# Altium schematic symbol library MCU_ST_STM32F4.SchLib: 300 symbols (part 2 of 11)
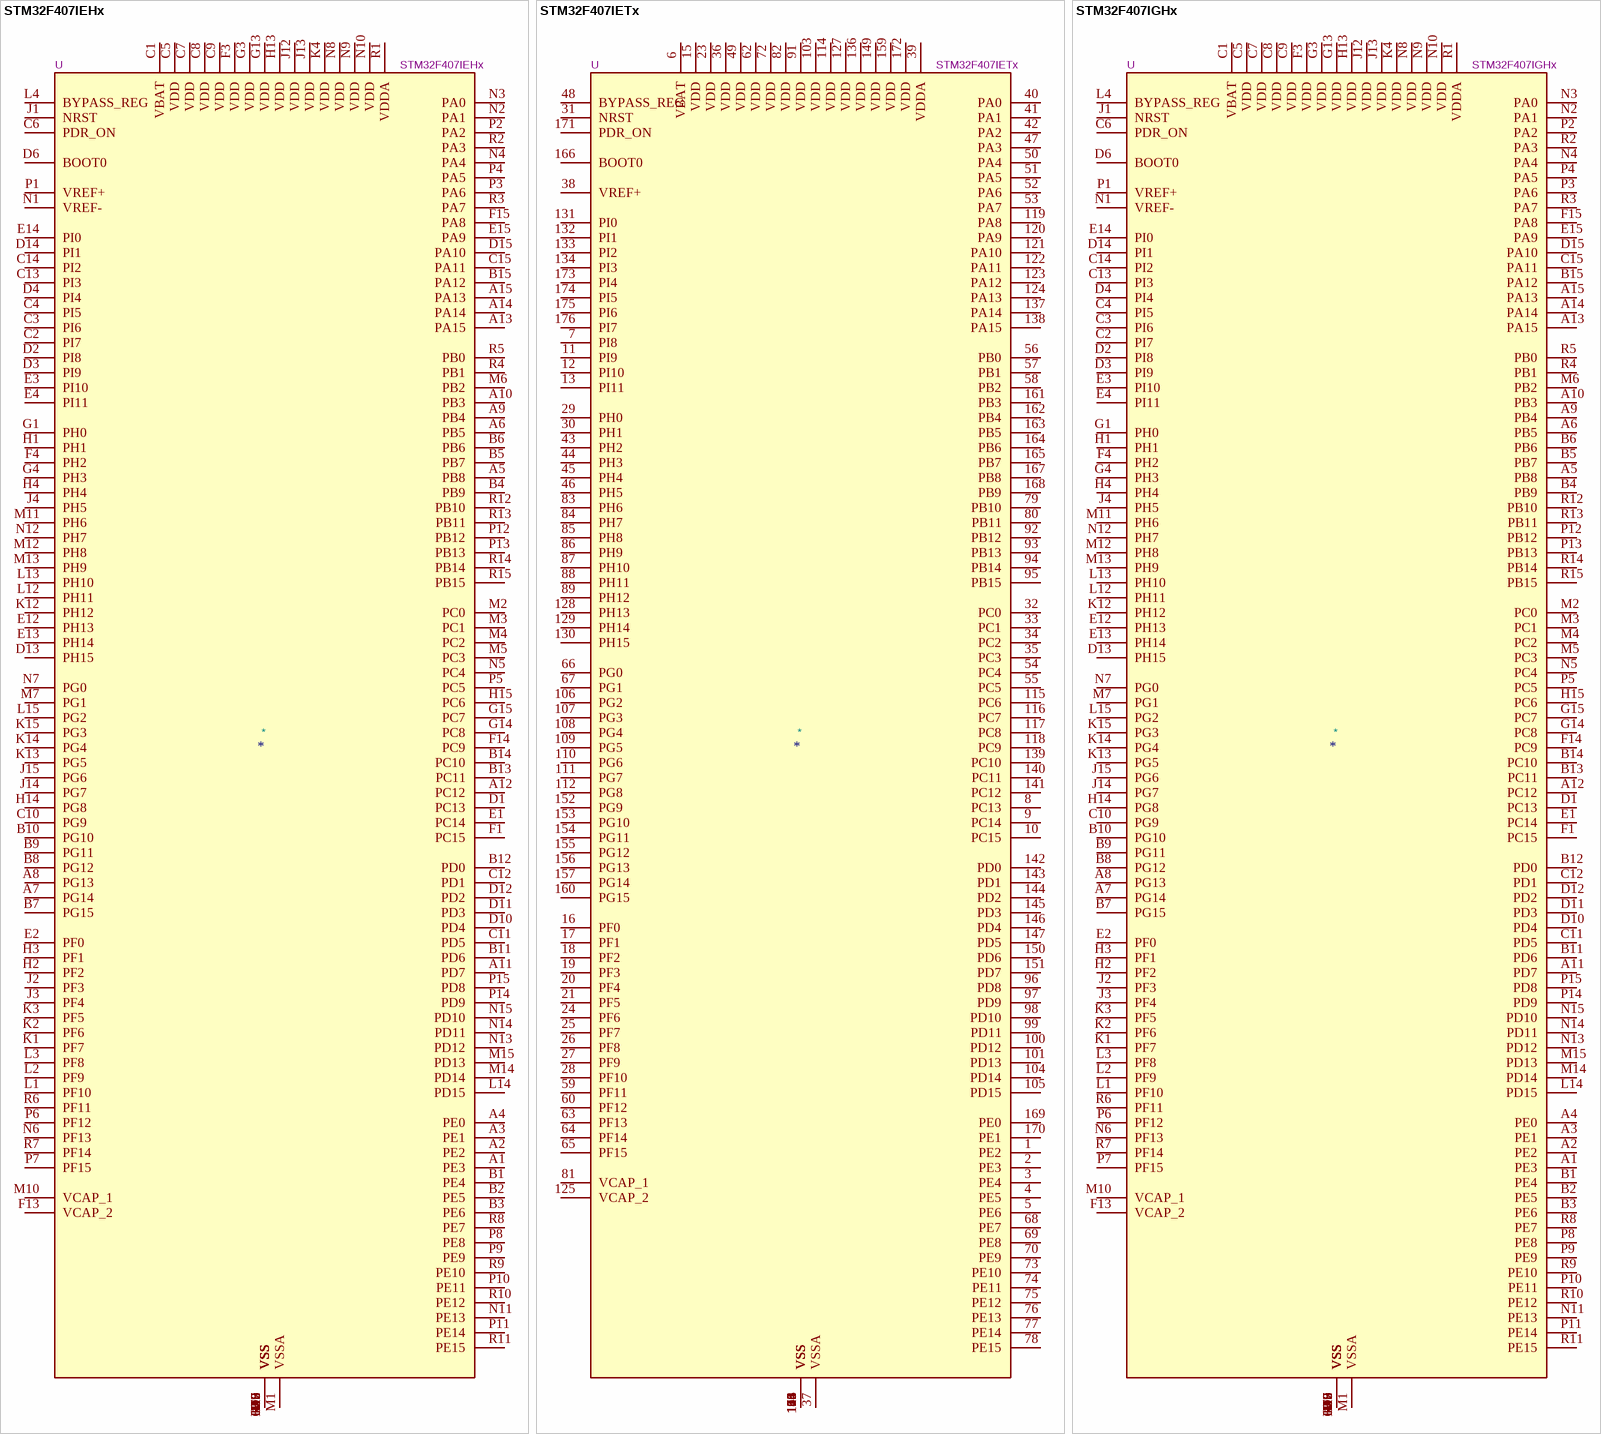
[diagram p83: symbols STM32F407IEHx to STM32F407IGHx]

## STM32F407IETx
designator *  value STM32F407IETx  Reference: U
STMicroelectronics Arm Cortex-M4 MCU, 512KB flash, 192KB RAM, 168 MHz, 1.8-3.6V, 140 GPIO, LQFP176; ki_keywords: Arm Cortex-M4 STM32F4 STM32F407/417; ki_fp_filters: LQFP*24x24mm*P0.5mm*; Footprint: Package_QFP:LQFP-176_24x24mm_P0.5mm; Datasheet: https://www.st.com/resource/en/datasheet/stm32f407ie.pdf; Description_: STMicroelectronics Arm Cortex-M4 MCU, 512KB flash, 192KB RAM, 168 MHz, 1.8-3.6V, 140 GPIO, LQFP176
pins: 1 PE2, 2 PE3, 3 PE4, 4 PE5, 5 PE6, 6 VBAT, 7 PI8, 8 PC13, 9 PC14, 10 PC15, 11 PI9, 12 PI10, 13 PI11, 14 VSS, 15 VDD, 16 PF0, 17 PF1, 18 PF2, 19 PF3, 20 PF4, 21 PF5, 22 VSS, 23 VDD, 24 PF6, 25 PF7, 26 PF8, 27 PF9, 28 PF10, 29 PH0, 30 PH1, 31 NRST, 32 PC0, 33 PC1, 34 PC2, 35 PC3, 36 VDD, 37 VSSA, 38 VREF+, 39 VDDA, 40 PA0, 41 PA1, 42 PA2, 43 PH2, 44 PH3, 45 PH4, 46 PH5, 47 PA3, 48 BYPASS_REG, 49 VDD, 50 PA4, 51 PA5, 52 PA6, 53 PA7, 54 PC4, 55 PC5, 56 PB0, 57 PB1, 58 PB2, 59 PF11, 60 PF12, 61 VSS, 62 VDD, 63 PF13, 64 PF14, 65 PF15, 66 PG0, 67 PG1, 68 PE7, 69 PE8, 70 PE9, 71 VSS, 72 VDD, 73 PE10, 74 PE11, 75 PE12, 76 PE13, 77 PE14, 78 PE15, 79 PB10, 80 PB11, 81 VCAP_1, 82 VDD, 83 PH6, 84 PH7, 85 PH8, 86 PH9, 87 PH10, 88 PH11, 89 PH12, 90 VSS, 91 VDD, 92 PB12, 93 PB13, 94 PB14, 95 PB15, 96 PD8, 97 PD9, 98 PD10, 99 PD11, 100 PD12, 101 PD13, 102 VSS, 103 VDD, 104 PD14, 105 PD15, 106 PG2, 107 PG3, 108 PG4, 109 PG5, 110 PG6, 111 PG7, 112 PG8, 113 VSS, 114 VDD, 115 PC6, 116 PC7, 117 PC8, 118 PC9, 119 PA8, 120 PA9, 121 PA10, 122 PA11, 123 PA12, 124 PA13, 125 VCAP_2, 126 VSS, 127 VDD, 128 PH13, 129 PH14, 130 PH15, 131 PI0, 132 PI1, 133 PI2, 134 PI3, 135 VSS, 136 VDD, 137 PA14, 138 PA15, 139 PC10, 140 PC11, 141 PC12, 142 PD0, 143 PD1, 144 PD2, 145 PD3, 146 PD4, 147 PD5, 148 VSS, 149 VDD, 150 PD6, 151 PD7, 152 PG9, 153 PG10, 154 PG11, 155 PG12, 156 PG13, 157 PG14, 158 VSS, 159 VDD, 160 PG15, 161 PB3, 162 PB4, 163 PB5, 164 PB6, 165 PB7, 166 BOOT0, 167 PB8, 168 PB9, 169 PE0, 170 PE1, 171 PDR_ON, 172 VDD, 173 PI4, 174 PI5, 175 PI6, 176 PI7

## STM32F407IGHx
designator *  value STM32F407IGHx  Reference: U
STMicroelectronics Arm Cortex-M4 MCU, 1024KB flash, 192KB RAM, 168 MHz, 1.8-3.6V, 140 GPIO, UFBGA176; ki_keywords: Arm Cortex-M4 STM32F4 STM32F407/417; ki_fp_filters: UFBGA*10x10mm*Layout15x15*P0.65mm*; Footprint: Package_BGA:UFBGA-201_10x10mm_Layout15x15_P0.65mm; Datasheet: https://www.st.com/resource/en/datasheet/stm32f407ig.pdf; Description_: STMicroelectronics Arm Cortex-M4 MCU, 1024KB flash, 192KB RAM, 168 MHz, 1.8-3.6V, 140 GPIO, UFBGA176
pins: A1 PE3, A2 PE2, A3 PE1, A4 PE0, A5 PB8, A6 PB5, A7 PG14, A8 PG13, A9 PB4, A10 PB3, A11 PD7, A12 PC12, A13 PA15, A14 PA14, A15 PA13, B1 PE4, B2 PE5, B3 PE6, B4 PB9, B5 PB7, B6 PB6, B7 PG15, B8 PG12, B9 PG11, B10 PG10, B11 PD6, B12 PD0, B13 PC11, B14 PC10, B15 PA12, C1 VBAT, C2 PI7, C3 PI6, C4 PI5, C5 VDD, C6 PDR_ON, C7 VDD, C8 VDD, C9 VDD, C10 PG9, C11 PD5, C12 PD1, C13 PI3, C14 PI2, C15 PA11, D1 PC13, D2 PI8, D3 PI9, D4 PI4, D5 VSS, D6 BOOT0, D7 VSS, D8 VSS, D9 VSS, D10 PD4, D11 PD3, D12 PD2, D13 PH15, D14 PI1, D15 PA10, E1 PC14, E2 PF0, E3 PI10, E4 PI11, E12 PH13, E13 PH14, E14 PI0, E15 PA9, F1 PC15, F2 VSS, F3 VDD, F4 PH2, F6 VSS, F7 VSS, F8 VSS, F9 VSS, F10 VSS, F12 VSS, F13 VCAP_2, F14 PC9, F15 PA8, G1 PH0, G2 VSS, G3 VDD, G4 PH3, G6 VSS, G7 VSS, G8 VSS, G9 VSS, G10 VSS, G12 VSS, G13 VDD, G14 PC8, G15 PC7, H1 PH1, H2 PF2, H3 PF1, H4 PH4, H6 VSS, H7 VSS, H8 VSS, H9 VSS, H10 VSS, H12 VSS, H13 VDD, H14 PG8, H15 PC6, J1 NRST, J2 PF3, J3 PF4, J4 PH5, J6 VSS, J7 VSS, J8 VSS, J9 VSS, J10 VSS, J12 VDD, J13 VDD, J14 PG7, J15 PG6, K1 PF7, K2 PF6, K3 PF5, K4 VDD, K6 VSS, K7 VSS, K8 VSS, K9 VSS, K10 VSS, K12 PH12, K13 PG5, K14 PG4, K15 PG3, L1 PF10, L2 PF9, L3 PF8, L4 BYPASS_REG, L12 PH11, L13 PH10, L14 PD15, L15 PG2, M1 VSSA, M2 PC0, M3 PC1, M4 PC2, M5 PC3, M6 PB2, M7 PG1, M8 VSS, M9 VSS, M10 VCAP_1, M11 PH6, M12 PH8, M13 PH9, M14 PD14, M15 PD13, N1 VREF-, N2 PA1, N3 PA0, N4 PA4, N5 PC4, N6 PF13, N7 PG0, N8 VDD, N9 VDD, N10 VDD, N11 PE13, N12 PH7, N13 PD12, N14 PD11, N15 PD10, P1 VREF+, P2 PA2, P3 PA6, P4 PA5, P5 PC5, P6 PF12, P7 PF15, P8 PE8, P9 PE9, P10 PE11, P11 PE14, P12 PB12, P13 PB13, P14 PD9, P15 PD8, R1 VDDA, R2 PA3, R3 PA7, R4 PB1, R5 PB0, R6 PF11, R7 PF14, R8 PE7, R9 PE10, R10 PE12, R11 PE15, R12 PB10, R13 PB11, R14 PB14, R15 PB15

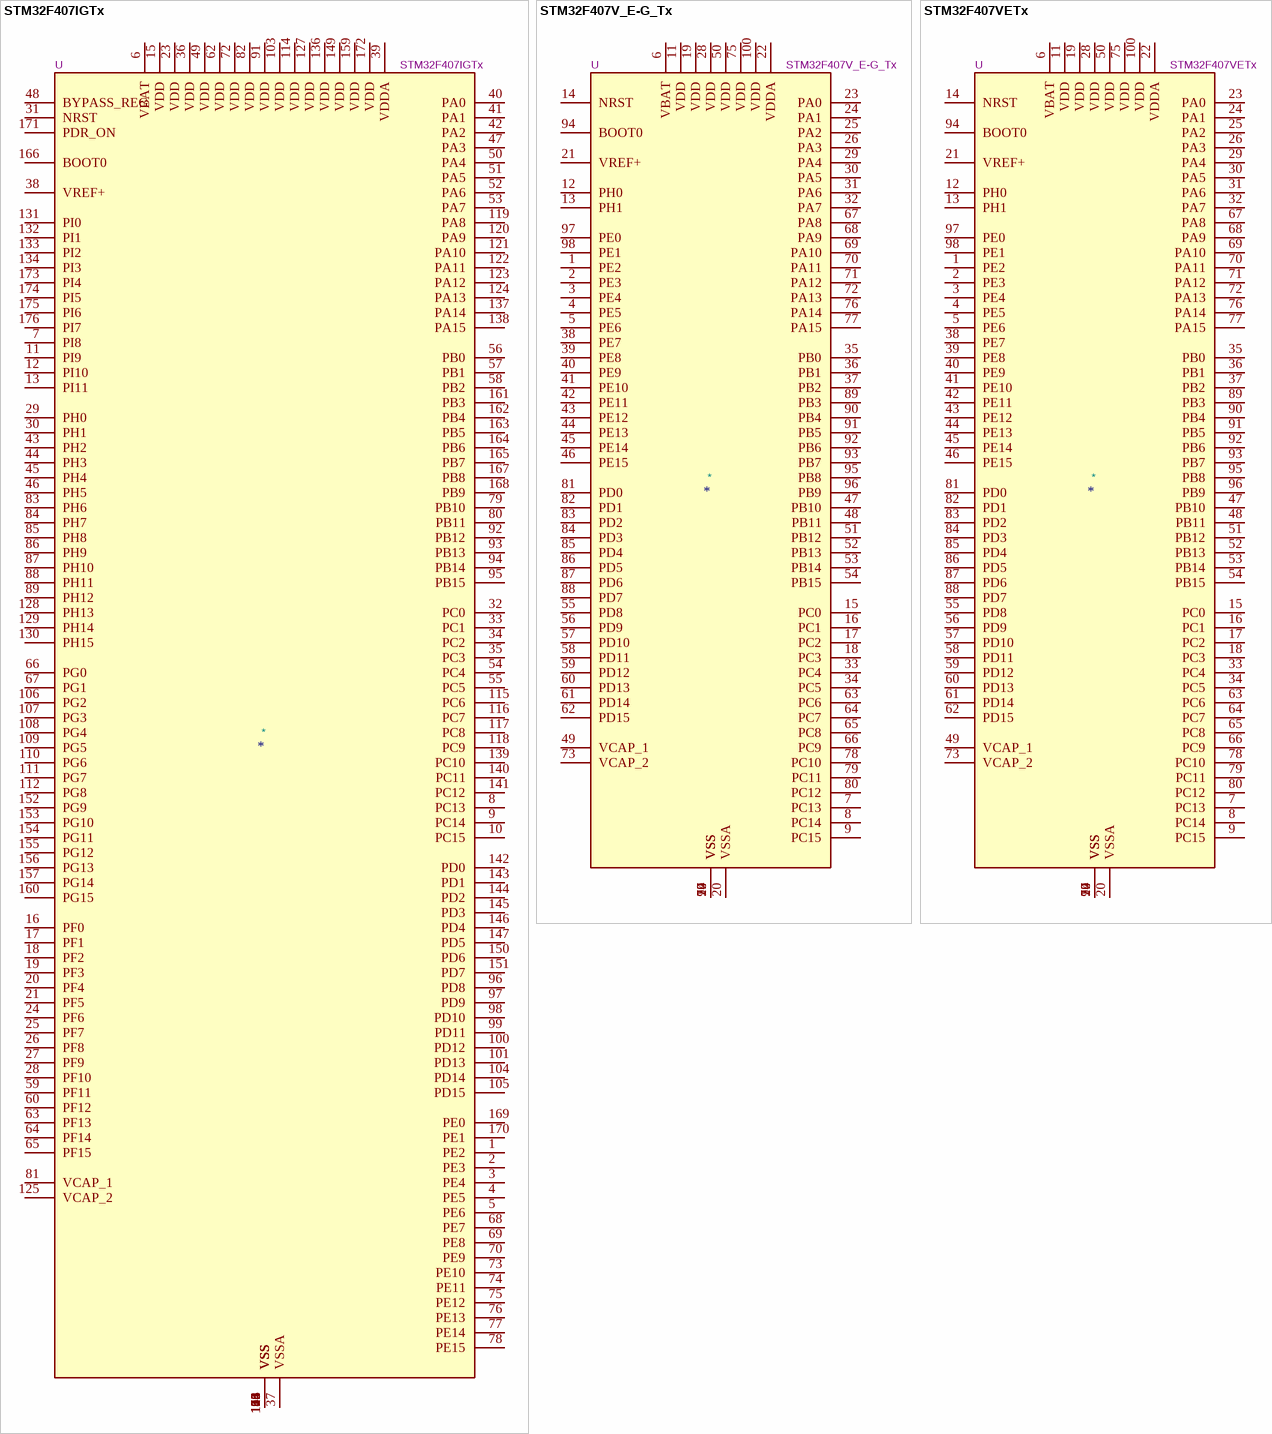
[diagram p8: symbols STM32F407IGTx to STM32F407VETx]

## STM32F407IGTx
designator *  value STM32F407IGTx  Reference: U
STMicroelectronics Arm Cortex-M4 MCU, 1024KB flash, 192KB RAM, 168 MHz, 1.8-3.6V, 140 GPIO, LQFP176; ki_keywords: Arm Cortex-M4 STM32F4 STM32F407/417; ki_fp_filters: LQFP*24x24mm*P0.5mm*; Footprint: Package_QFP:LQFP-176_24x24mm_P0.5mm; Datasheet: https://www.st.com/resource/en/datasheet/stm32f407ig.pdf; Description_: STMicroelectronics Arm Cortex-M4 MCU, 1024KB flash, 192KB RAM, 168 MHz, 1.8-3.6V, 140 GPIO, LQFP176
pins: 1 PE2, 2 PE3, 3 PE4, 4 PE5, 5 PE6, 6 VBAT, 7 PI8, 8 PC13, 9 PC14, 10 PC15, 11 PI9, 12 PI10, 13 PI11, 14 VSS, 15 VDD, 16 PF0, 17 PF1, 18 PF2, 19 PF3, 20 PF4, 21 PF5, 22 VSS, 23 VDD, 24 PF6, 25 PF7, 26 PF8, 27 PF9, 28 PF10, 29 PH0, 30 PH1, 31 NRST, 32 PC0, 33 PC1, 34 PC2, 35 PC3, 36 VDD, 37 VSSA, 38 VREF+, 39 VDDA, 40 PA0, 41 PA1, 42 PA2, 43 PH2, 44 PH3, 45 PH4, 46 PH5, 47 PA3, 48 BYPASS_REG, 49 VDD, 50 PA4, 51 PA5, 52 PA6, 53 PA7, 54 PC4, 55 PC5, 56 PB0, 57 PB1, 58 PB2, 59 PF11, 60 PF12, 61 VSS, 62 VDD, 63 PF13, 64 PF14, 65 PF15, 66 PG0, 67 PG1, 68 PE7, 69 PE8, 70 PE9, 71 VSS, 72 VDD, 73 PE10, 74 PE11, 75 PE12, 76 PE13, 77 PE14, 78 PE15, 79 PB10, 80 PB11, 81 VCAP_1, 82 VDD, 83 PH6, 84 PH7, 85 PH8, 86 PH9, 87 PH10, 88 PH11, 89 PH12, 90 VSS, 91 VDD, 92 PB12, 93 PB13, 94 PB14, 95 PB15, 96 PD8, 97 PD9, 98 PD10, 99 PD11, 100 PD12, 101 PD13, 102 VSS, 103 VDD, 104 PD14, 105 PD15, 106 PG2, 107 PG3, 108 PG4, 109 PG5, 110 PG6, 111 PG7, 112 PG8, 113 VSS, 114 VDD, 115 PC6, 116 PC7, 117 PC8, 118 PC9, 119 PA8, 120 PA9, 121 PA10, 122 PA11, 123 PA12, 124 PA13, 125 VCAP_2, 126 VSS, 127 VDD, 128 PH13, 129 PH14, 130 PH15, 131 PI0, 132 PI1, 133 PI2, 134 PI3, 135 VSS, 136 VDD, 137 PA14, 138 PA15, 139 PC10, 140 PC11, 141 PC12, 142 PD0, 143 PD1, 144 PD2, 145 PD3, 146 PD4, 147 PD5, 148 VSS, 149 VDD, 150 PD6, 151 PD7, 152 PG9, 153 PG10, 154 PG11, 155 PG12, 156 PG13, 157 PG14, 158 VSS, 159 VDD, 160 PG15, 161 PB3, 162 PB4, 163 PB5, 164 PB6, 165 PB7, 166 BOOT0, 167 PB8, 168 PB9, 169 PE0, 170 PE1, 171 PDR_ON, 172 VDD, 173 PI4, 174 PI5, 175 PI6, 176 PI7

## STM32F407V_E-G_Tx
designator *  value STM32F407V_E-G_Tx  Reference: U
STMicroelectronics Arm Cortex-M4 MCU, 512-1024KB flash, 192KB RAM, 168 MHz, 1.8-3.6V, 82 GPIO, LQFP100; ki_keywords: Arm Cortex-M4 STM32F4 STM32F407/417; ki_fp_filters: LQFP*14x14mm*P0.5mm*; Footprint: Package_QFP:LQFP-100_14x14mm_P0.5mm; Datasheet: https://www.st.com/resource/en/datasheet/stm32f407ve.pdf; Description_: STMicroelectronics Arm Cortex-M4 MCU, 512-1024KB flash, 192KB RAM, 168 MHz, 1.8-3.6V, 82 GPIO, LQFP100
pins: 1 PE2, 2 PE3, 3 PE4, 4 PE5, 5 PE6, 6 VBAT, 7 PC13, 8 PC14, 9 PC15, 10 VSS, 11 VDD, 12 PH0, 13 PH1, 14 NRST, 15 PC0, 16 PC1, 17 PC2, 18 PC3, 19 VDD, 20 VSSA, 21 VREF+, 22 VDDA, 23 PA0, 24 PA1, 25 PA2, 26 PA3, 27 VSS, 28 VDD, 29 PA4, 30 PA5, 31 PA6, 32 PA7, 33 PC4, 34 PC5, 35 PB0, 36 PB1, 37 PB2, 38 PE7, 39 PE8, 40 PE9, 41 PE10, 42 PE11, 43 PE12, 44 PE13, 45 PE14, 46 PE15, 47 PB10, 48 PB11, 49 VCAP_1, 50 VDD, 51 PB12, 52 PB13, 53 PB14, 54 PB15, 55 PD8, 56 PD9, 57 PD10, 58 PD11, 59 PD12, 60 PD13, 61 PD14, 62 PD15, 63 PC6, 64 PC7, 65 PC8, 66 PC9, 67 PA8, 68 PA9, 69 PA10, 70 PA11, 71 PA12, 72 PA13, 73 VCAP_2, 74 VSS, 75 VDD, 76 PA14, 77 PA15, 78 PC10, 79 PC11, 80 PC12, 81 PD0, 82 PD1, 83 PD2, 84 PD3, 85 PD4, 86 PD5, 87 PD6, 88 PD7, 89 PB3, 90 PB4, 91 PB5, 92 PB6, 93 PB7, 94 BOOT0, 95 PB8, 96 PB9, 97 PE0, 98 PE1, 99 VSS, 100 VDD

## STM32F407VETx
designator *  value STM32F407VETx  Reference: U
STMicroelectronics Arm Cortex-M4 MCU, 512KB flash, 192KB RAM, 168 MHz, 1.8-3.6V, 82 GPIO, LQFP100; ki_keywords: Arm Cortex-M4 STM32F4 STM32F407/417; ki_fp_filters: LQFP*14x14mm*P0.5mm*; Footprint: Package_QFP:LQFP-100_14x14mm_P0.5mm; Datasheet: https://www.st.com/resource/en/datasheet/stm32f407ve.pdf; Description_: STMicroelectronics Arm Cortex-M4 MCU, 512KB flash, 192KB RAM, 168 MHz, 1.8-3.6V, 82 GPIO, LQFP100
pins: 1 PE2, 2 PE3, 3 PE4, 4 PE5, 5 PE6, 6 VBAT, 7 PC13, 8 PC14, 9 PC15, 10 VSS, 11 VDD, 12 PH0, 13 PH1, 14 NRST, 15 PC0, 16 PC1, 17 PC2, 18 PC3, 19 VDD, 20 VSSA, 21 VREF+, 22 VDDA, 23 PA0, 24 PA1, 25 PA2, 26 PA3, 27 VSS, 28 VDD, 29 PA4, 30 PA5, 31 PA6, 32 PA7, 33 PC4, 34 PC5, 35 PB0, 36 PB1, 37 PB2, 38 PE7, 39 PE8, 40 PE9, 41 PE10, 42 PE11, 43 PE12, 44 PE13, 45 PE14, 46 PE15, 47 PB10, 48 PB11, 49 VCAP_1, 50 VDD, 51 PB12, 52 PB13, 53 PB14, 54 PB15, 55 PD8, 56 PD9, 57 PD10, 58 PD11, 59 PD12, 60 PD13, 61 PD14, 62 PD15, 63 PC6, 64 PC7, 65 PC8, 66 PC9, 67 PA8, 68 PA9, 69 PA10, 70 PA11, 71 PA12, 72 PA13, 73 VCAP_2, 74 VSS, 75 VDD, 76 PA14, 77 PA15, 78 PC10, 79 PC11, 80 PC12, 81 PD0, 82 PD1, 83 PD2, 84 PD3, 85 PD4, 86 PD5, 87 PD6, 88 PD7, 89 PB3, 90 PB4, 91 PB5, 92 PB6, 93 PB7, 94 BOOT0, 95 PB8, 96 PB9, 97 PE0, 98 PE1, 99 VSS, 100 VDD

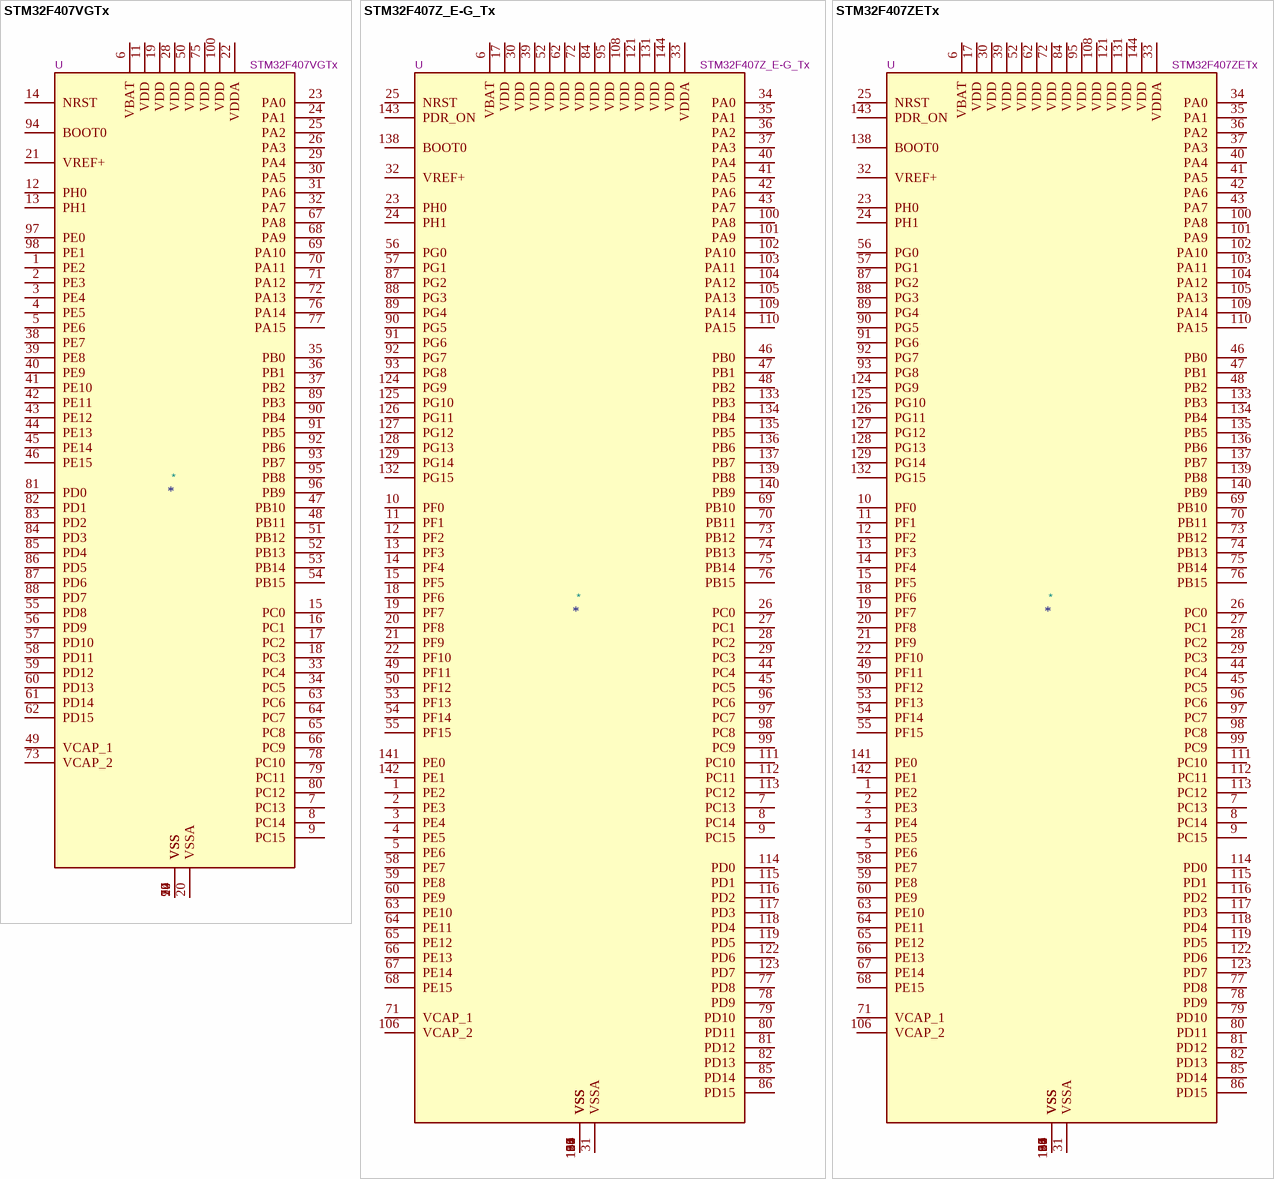
[diagram p9: symbols STM32F407VGTx to STM32F407ZETx]

## STM32F407VGTx
designator *  value STM32F407VGTx  Reference: U
STMicroelectronics Arm Cortex-M4 MCU, 1024KB flash, 192KB RAM, 168 MHz, 1.8-3.6V, 82 GPIO, LQFP100; ki_keywords: Arm Cortex-M4 STM32F4 STM32F407/417; ki_fp_filters: LQFP*14x14mm*P0.5mm*; Footprint: Package_QFP:LQFP-100_14x14mm_P0.5mm; Datasheet: https://www.st.com/resource/en/datasheet/stm32f407vg.pdf; Description_: STMicroelectronics Arm Cortex-M4 MCU, 1024KB flash, 192KB RAM, 168 MHz, 1.8-3.6V, 82 GPIO, LQFP100
pins: 1 PE2, 2 PE3, 3 PE4, 4 PE5, 5 PE6, 6 VBAT, 7 PC13, 8 PC14, 9 PC15, 10 VSS, 11 VDD, 12 PH0, 13 PH1, 14 NRST, 15 PC0, 16 PC1, 17 PC2, 18 PC3, 19 VDD, 20 VSSA, 21 VREF+, 22 VDDA, 23 PA0, 24 PA1, 25 PA2, 26 PA3, 27 VSS, 28 VDD, 29 PA4, 30 PA5, 31 PA6, 32 PA7, 33 PC4, 34 PC5, 35 PB0, 36 PB1, 37 PB2, 38 PE7, 39 PE8, 40 PE9, 41 PE10, 42 PE11, 43 PE12, 44 PE13, 45 PE14, 46 PE15, 47 PB10, 48 PB11, 49 VCAP_1, 50 VDD, 51 PB12, 52 PB13, 53 PB14, 54 PB15, 55 PD8, 56 PD9, 57 PD10, 58 PD11, 59 PD12, 60 PD13, 61 PD14, 62 PD15, 63 PC6, 64 PC7, 65 PC8, 66 PC9, 67 PA8, 68 PA9, 69 PA10, 70 PA11, 71 PA12, 72 PA13, 73 VCAP_2, 74 VSS, 75 VDD, 76 PA14, 77 PA15, 78 PC10, 79 PC11, 80 PC12, 81 PD0, 82 PD1, 83 PD2, 84 PD3, 85 PD4, 86 PD5, 87 PD6, 88 PD7, 89 PB3, 90 PB4, 91 PB5, 92 PB6, 93 PB7, 94 BOOT0, 95 PB8, 96 PB9, 97 PE0, 98 PE1, 99 VSS, 100 VDD

## STM32F407Z_E-G_Tx
designator *  value STM32F407Z_E-G_Tx  Reference: U
STMicroelectronics Arm Cortex-M4 MCU, 512-1024KB flash, 192KB RAM, 168 MHz, 1.8-3.6V, 114 GPIO, LQFP144; ki_keywords: Arm Cortex-M4 STM32F4 STM32F407/417; ki_fp_filters: LQFP*20x20mm*P0.5mm*; Footprint: Package_QFP:LQFP-144_20x20mm_P0.5mm; Datasheet: https://www.st.com/resource/en/datasheet/stm32f407ze.pdf; Description_: STMicroelectronics Arm Cortex-M4 MCU, 512-1024KB flash, 192KB RAM, 168 MHz, 1.8-3.6V, 114 GPIO, LQFP144
pins: 1 PE2, 2 PE3, 3 PE4, 4 PE5, 5 PE6, 6 VBAT, 7 PC13, 8 PC14, 9 PC15, 10 PF0, 11 PF1, 12 PF2, 13 PF3, 14 PF4, 15 PF5, 16 VSS, 17 VDD, 18 PF6, 19 PF7, 20 PF8, 21 PF9, 22 PF10, 23 PH0, 24 PH1, 25 NRST, 26 PC0, 27 PC1, 28 PC2, 29 PC3, 30 VDD, 31 VSSA, 32 VREF+, 33 VDDA, 34 PA0, 35 PA1, 36 PA2, 37 PA3, 38 VSS, 39 VDD, 40 PA4, 41 PA5, 42 PA6, 43 PA7, 44 PC4, 45 PC5, 46 PB0, 47 PB1, 48 PB2, 49 PF11, 50 PF12, 51 VSS, 52 VDD, 53 PF13, 54 PF14, 55 PF15, 56 PG0, 57 PG1, 58 PE7, 59 PE8, 60 PE9, 61 VSS, 62 VDD, 63 PE10, 64 PE11, 65 PE12, 66 PE13, 67 PE14, 68 PE15, 69 PB10, 70 PB11, 71 VCAP_1, 72 VDD, 73 PB12, 74 PB13, 75 PB14, 76 PB15, 77 PD8, 78 PD9, 79 PD10, 80 PD11, 81 PD12, 82 PD13, 83 VSS, 84 VDD, 85 PD14, 86 PD15, 87 PG2, 88 PG3, 89 PG4, 90 PG5, 91 PG6, 92 PG7, 93 PG8, 94 VSS, 95 VDD, 96 PC6, 97 PC7, 98 PC8, 99 PC9, 100 PA8, 101 PA9, 102 PA10, 103 PA11, 104 PA12, 105 PA13, 106 VCAP_2, 107 VSS, 108 VDD, 109 PA14, 110 PA15, 111 PC10, 112 PC11, 113 PC12, 114 PD0, 115 PD1, 116 PD2, 117 PD3, 118 PD4, 119 PD5, 120 VSS, 121 VDD, 122 PD6, 123 PD7, 124 PG9, 125 PG10, 126 PG11, 127 PG12, 128 PG13, 129 PG14, 130 VSS, 131 VDD, 132 PG15, 133 PB3, 134 PB4, 135 PB5, 136 PB6, 137 PB7, 138 BOOT0, 139 PB8, 140 PB9, 141 PE0, 142 PE1, 143 PDR_ON, 144 VDD

## STM32F407ZETx
designator *  value STM32F407ZETx  Reference: U
STMicroelectronics Arm Cortex-M4 MCU, 512KB flash, 192KB RAM, 168 MHz, 1.8-3.6V, 114 GPIO, LQFP144; ki_keywords: Arm Cortex-M4 STM32F4 STM32F407/417; ki_fp_filters: LQFP*20x20mm*P0.5mm*; Footprint: Package_QFP:LQFP-144_20x20mm_P0.5mm; Datasheet: https://www.st.com/resource/en/datasheet/stm32f407ze.pdf; Description_: STMicroelectronics Arm Cortex-M4 MCU, 512KB flash, 192KB RAM, 168 MHz, 1.8-3.6V, 114 GPIO, LQFP144
pins: 1 PE2, 2 PE3, 3 PE4, 4 PE5, 5 PE6, 6 VBAT, 7 PC13, 8 PC14, 9 PC15, 10 PF0, 11 PF1, 12 PF2, 13 PF3, 14 PF4, 15 PF5, 16 VSS, 17 VDD, 18 PF6, 19 PF7, 20 PF8, 21 PF9, 22 PF10, 23 PH0, 24 PH1, 25 NRST, 26 PC0, 27 PC1, 28 PC2, 29 PC3, 30 VDD, 31 VSSA, 32 VREF+, 33 VDDA, 34 PA0, 35 PA1, 36 PA2, 37 PA3, 38 VSS, 39 VDD, 40 PA4, 41 PA5, 42 PA6, 43 PA7, 44 PC4, 45 PC5, 46 PB0, 47 PB1, 48 PB2, 49 PF11, 50 PF12, 51 VSS, 52 VDD, 53 PF13, 54 PF14, 55 PF15, 56 PG0, 57 PG1, 58 PE7, 59 PE8, 60 PE9, 61 VSS, 62 VDD, 63 PE10, 64 PE11, 65 PE12, 66 PE13, 67 PE14, 68 PE15, 69 PB10, 70 PB11, 71 VCAP_1, 72 VDD, 73 PB12, 74 PB13, 75 PB14, 76 PB15, 77 PD8, 78 PD9, 79 PD10, 80 PD11, 81 PD12, 82 PD13, 83 VSS, 84 VDD, 85 PD14, 86 PD15, 87 PG2, 88 PG3, 89 PG4, 90 PG5, 91 PG6, 92 PG7, 93 PG8, 94 VSS, 95 VDD, 96 PC6, 97 PC7, 98 PC8, 99 PC9, 100 PA8, 101 PA9, 102 PA10, 103 PA11, 104 PA12, 105 PA13, 106 VCAP_2, 107 VSS, 108 VDD, 109 PA14, 110 PA15, 111 PC10, 112 PC11, 113 PC12, 114 PD0, 115 PD1, 116 PD2, 117 PD3, 118 PD4, 119 PD5, 120 VSS, 121 VDD, 122 PD6, 123 PD7, 124 PG9, 125 PG10, 126 PG11, 127 PG12, 128 PG13, 129 PG14, 130 VSS, 131 VDD, 132 PG15, 133 PB3, 134 PB4, 135 PB5, 136 PB6, 137 PB7, 138 BOOT0, 139 PB8, 140 PB9, 141 PE0, 142 PE1, 143 PDR_ON, 144 VDD

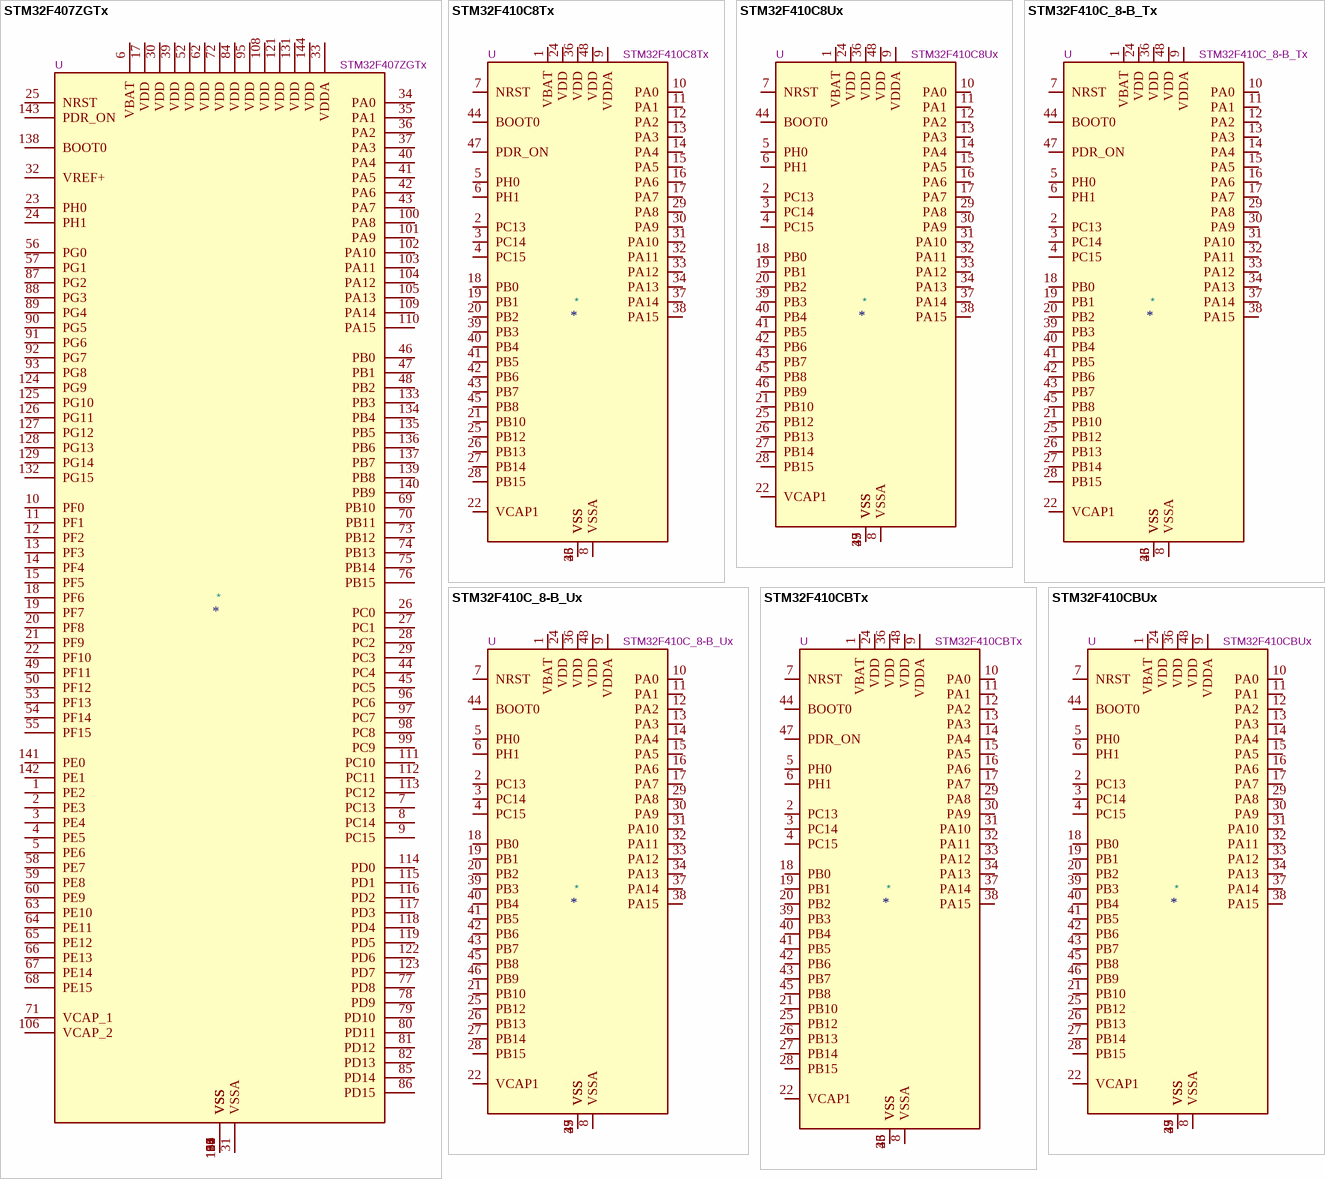
[diagram p10: symbols STM32F407ZGTx to STM32F410CBUx]

## STM32F407ZGTx
designator *  value STM32F407ZGTx  Reference: U
STMicroelectronics Arm Cortex-M4 MCU, 1024KB flash, 192KB RAM, 168 MHz, 1.8-3.6V, 114 GPIO, LQFP144; ki_keywords: Arm Cortex-M4 STM32F4 STM32F407/417; ki_fp_filters: LQFP*20x20mm*P0.5mm*; Footprint: Package_QFP:LQFP-144_20x20mm_P0.5mm; Datasheet: https://www.st.com/resource/en/datasheet/stm32f407zg.pdf; Description_: STMicroelectronics Arm Cortex-M4 MCU, 1024KB flash, 192KB RAM, 168 MHz, 1.8-3.6V, 114 GPIO, LQFP144
pins: 1 PE2, 2 PE3, 3 PE4, 4 PE5, 5 PE6, 6 VBAT, 7 PC13, 8 PC14, 9 PC15, 10 PF0, 11 PF1, 12 PF2, 13 PF3, 14 PF4, 15 PF5, 16 VSS, 17 VDD, 18 PF6, 19 PF7, 20 PF8, 21 PF9, 22 PF10, 23 PH0, 24 PH1, 25 NRST, 26 PC0, 27 PC1, 28 PC2, 29 PC3, 30 VDD, 31 VSSA, 32 VREF+, 33 VDDA, 34 PA0, 35 PA1, 36 PA2, 37 PA3, 38 VSS, 39 VDD, 40 PA4, 41 PA5, 42 PA6, 43 PA7, 44 PC4, 45 PC5, 46 PB0, 47 PB1, 48 PB2, 49 PF11, 50 PF12, 51 VSS, 52 VDD, 53 PF13, 54 PF14, 55 PF15, 56 PG0, 57 PG1, 58 PE7, 59 PE8, 60 PE9, 61 VSS, 62 VDD, 63 PE10, 64 PE11, 65 PE12, 66 PE13, 67 PE14, 68 PE15, 69 PB10, 70 PB11, 71 VCAP_1, 72 VDD, 73 PB12, 74 PB13, 75 PB14, 76 PB15, 77 PD8, 78 PD9, 79 PD10, 80 PD11, 81 PD12, 82 PD13, 83 VSS, 84 VDD, 85 PD14, 86 PD15, 87 PG2, 88 PG3, 89 PG4, 90 PG5, 91 PG6, 92 PG7, 93 PG8, 94 VSS, 95 VDD, 96 PC6, 97 PC7, 98 PC8, 99 PC9, 100 PA8, 101 PA9, 102 PA10, 103 PA11, 104 PA12, 105 PA13, 106 VCAP_2, 107 VSS, 108 VDD, 109 PA14, 110 PA15, 111 PC10, 112 PC11, 113 PC12, 114 PD0, 115 PD1, 116 PD2, 117 PD3, 118 PD4, 119 PD5, 120 VSS, 121 VDD, 122 PD6, 123 PD7, 124 PG9, 125 PG10, 126 PG11, 127 PG12, 128 PG13, 129 PG14, 130 VSS, 131 VDD, 132 PG15, 133 PB3, 134 PB4, 135 PB5, 136 PB6, 137 PB7, 138 BOOT0, 139 PB8, 140 PB9, 141 PE0, 142 PE1, 143 PDR_ON, 144 VDD

## STM32F410C8Tx
designator *  value STM32F410C8Tx  Reference: U
STMicroelectronics Arm Cortex-M4 MCU, 64KB flash, 32KB RAM, 100 MHz, 1.7-3.6V, 35 GPIO, LQFP48; ki_keywords: Arm Cortex-M4 STM32F4 STM32F410; ki_fp_filters: LQFP*7x7mm*P0.5mm*; Footprint: Package_QFP:LQFP-48_7x7mm_P0.5mm; Datasheet: https://www.st.com/resource/en/datasheet/stm32f410c8.pdf; Description_: STMicroelectronics Arm Cortex-M4 MCU, 64KB flash, 32KB RAM, 100 MHz, 1.7-3.6V, 35 GPIO, LQFP48
pins: 1 VBAT, 2 PC13, 3 PC14, 4 PC15, 5 PH0, 6 PH1, 7 NRST, 8 VSSA, 9 VDDA, 10 PA0, 11 PA1, 12 PA2, 13 PA3, 14 PA4, 15 PA5, 16 PA6, 17 PA7, 18 PB0, 19 PB1, 20 PB2, 21 PB10, 22 VCAP1, 23 VSS, 24 VDD, 25 PB12, 26 PB13, 27 PB14, 28 PB15, 29 PA8, 30 PA9, 31 PA10, 32 PA11, 33 PA12, 34 PA13, 35 VSS, 36 VDD, 37 PA14, 38 PA15, 39 PB3, 40 PB4, 41 PB5, 42 PB6, 43 PB7, 44 BOOT0, 45 PB8, 46 VSS, 47 PDR_ON, 48 VDD

## STM32F410C8Ux
designator *  value STM32F410C8Ux  Reference: U
STMicroelectronics Arm Cortex-M4 MCU, 64KB flash, 32KB RAM, 100 MHz, 1.7-3.6V, 36 GPIO, UFQFPN48; ki_keywords: Arm Cortex-M4 STM32F4 STM32F410; ki_fp_filters: QFN*1EP*7x7mm*P0.5mm*; Footprint: Package_DFN_QFN:QFN-48-1EP_7x7mm_P0.5mm_EP5.6x5.6mm; Datasheet: https://www.st.com/resource/en/datasheet/stm32f410c8.pdf; Description_: STMicroelectronics Arm Cortex-M4 MCU, 64KB flash, 32KB RAM, 100 MHz, 1.7-3.6V, 36 GPIO, UFQFPN48
pins: 1 VBAT, 2 PC13, 3 PC14, 4 PC15, 5 PH0, 6 PH1, 7 NRST, 8 VSSA, 9 VDDA, 10 PA0, 11 PA1, 12 PA2, 13 PA3, 14 PA4, 15 PA5, 16 PA6, 17 PA7, 18 PB0, 19 PB1, 20 PB2, 21 PB10, 22 VCAP1, 23 VSS, 24 VDD, 25 PB12, 26 PB13, 27 PB14, 28 PB15, 29 PA8, 30 PA9, 31 PA10, 32 PA11, 33 PA12, 34 PA13, 35 VSS, 36 VDD, 37 PA14, 38 PA15, 39 PB3, 40 PB4, 41 PB5, 42 PB6, 43 PB7, 44 BOOT0, 45 PB8, 46 PB9, 47 VSS, 48 VDD, 49 VSS

## STM32F410C_8-B_Tx
designator *  value STM32F410C_8-B_Tx  Reference: U
STMicroelectronics Arm Cortex-M4 MCU, 64-128KB flash, 32KB RAM, 100 MHz, 1.7-3.6V, 35 GPIO, LQFP48; ki_keywords: Arm Cortex-M4 STM32F4 STM32F410; ki_fp_filters: LQFP*7x7mm*P0.5mm*; Footprint: Package_QFP:LQFP-48_7x7mm_P0.5mm; Datasheet: https://www.st.com/resource/en/datasheet/stm32f410c8.pdf; Description_: STMicroelectronics Arm Cortex-M4 MCU, 64-128KB flash, 32KB RAM, 100 MHz, 1.7-3.6V, 35 GPIO, LQFP48
pins: 1 VBAT, 2 PC13, 3 PC14, 4 PC15, 5 PH0, 6 PH1, 7 NRST, 8 VSSA, 9 VDDA, 10 PA0, 11 PA1, 12 PA2, 13 PA3, 14 PA4, 15 PA5, 16 PA6, 17 PA7, 18 PB0, 19 PB1, 20 PB2, 21 PB10, 22 VCAP1, 23 VSS, 24 VDD, 25 PB12, 26 PB13, 27 PB14, 28 PB15, 29 PA8, 30 PA9, 31 PA10, 32 PA11, 33 PA12, 34 PA13, 35 VSS, 36 VDD, 37 PA14, 38 PA15, 39 PB3, 40 PB4, 41 PB5, 42 PB6, 43 PB7, 44 BOOT0, 45 PB8, 46 VSS, 47 PDR_ON, 48 VDD

## STM32F410C_8-B_Ux
designator *  value STM32F410C_8-B_Ux  Reference: U
STMicroelectronics Arm Cortex-M4 MCU, 64-128KB flash, 32KB RAM, 100 MHz, 1.7-3.6V, 36 GPIO, UFQFPN48; ki_keywords: Arm Cortex-M4 STM32F4 STM32F410; ki_fp_filters: QFN*1EP*7x7mm*P0.5mm*; Footprint: Package_DFN_QFN:QFN-48-1EP_7x7mm_P0.5mm_EP5.6x5.6mm; Datasheet: https://www.st.com/resource/en/datasheet/stm32f410c8.pdf; Description_: STMicroelectronics Arm Cortex-M4 MCU, 64-128KB flash, 32KB RAM, 100 MHz, 1.7-3.6V, 36 GPIO, UFQFPN48
pins: 1 VBAT, 2 PC13, 3 PC14, 4 PC15, 5 PH0, 6 PH1, 7 NRST, 8 VSSA, 9 VDDA, 10 PA0, 11 PA1, 12 PA2, 13 PA3, 14 PA4, 15 PA5, 16 PA6, 17 PA7, 18 PB0, 19 PB1, 20 PB2, 21 PB10, 22 VCAP1, 23 VSS, 24 VDD, 25 PB12, 26 PB13, 27 PB14, 28 PB15, 29 PA8, 30 PA9, 31 PA10, 32 PA11, 33 PA12, 34 PA13, 35 VSS, 36 VDD, 37 PA14, 38 PA15, 39 PB3, 40 PB4, 41 PB5, 42 PB6, 43 PB7, 44 BOOT0, 45 PB8, 46 PB9, 47 VSS, 48 VDD, 49 VSS

## STM32F410CBTx
designator *  value STM32F410CBTx  Reference: U
STMicroelectronics Arm Cortex-M4 MCU, 128KB flash, 32KB RAM, 100 MHz, 1.7-3.6V, 35 GPIO, LQFP48; ki_keywords: Arm Cortex-M4 STM32F4 STM32F410; ki_fp_filters: LQFP*7x7mm*P0.5mm*; Footprint: Package_QFP:LQFP-48_7x7mm_P0.5mm; Datasheet: https://www.st.com/resource/en/datasheet/stm32f410cb.pdf; Description_: STMicroelectronics Arm Cortex-M4 MCU, 128KB flash, 32KB RAM, 100 MHz, 1.7-3.6V, 35 GPIO, LQFP48
pins: 1 VBAT, 2 PC13, 3 PC14, 4 PC15, 5 PH0, 6 PH1, 7 NRST, 8 VSSA, 9 VDDA, 10 PA0, 11 PA1, 12 PA2, 13 PA3, 14 PA4, 15 PA5, 16 PA6, 17 PA7, 18 PB0, 19 PB1, 20 PB2, 21 PB10, 22 VCAP1, 23 VSS, 24 VDD, 25 PB12, 26 PB13, 27 PB14, 28 PB15, 29 PA8, 30 PA9, 31 PA10, 32 PA11, 33 PA12, 34 PA13, 35 VSS, 36 VDD, 37 PA14, 38 PA15, 39 PB3, 40 PB4, 41 PB5, 42 PB6, 43 PB7, 44 BOOT0, 45 PB8, 46 VSS, 47 PDR_ON, 48 VDD

## STM32F410CBUx
designator *  value STM32F410CBUx  Reference: U
STMicroelectronics Arm Cortex-M4 MCU, 128KB flash, 32KB RAM, 100 MHz, 1.7-3.6V, 36 GPIO, UFQFPN48; ki_keywords: Arm Cortex-M4 STM32F4 STM32F410; ki_fp_filters: QFN*1EP*7x7mm*P0.5mm*; Footprint: Package_DFN_QFN:QFN-48-1EP_7x7mm_P0.5mm_EP5.6x5.6mm; Datasheet: https://www.st.com/resource/en/datasheet/stm32f410cb.pdf; Description_: STMicroelectronics Arm Cortex-M4 MCU, 128KB flash, 32KB RAM, 100 MHz, 1.7-3.6V, 36 GPIO, UFQFPN48
pins: 1 VBAT, 2 PC13, 3 PC14, 4 PC15, 5 PH0, 6 PH1, 7 NRST, 8 VSSA, 9 VDDA, 10 PA0, 11 PA1, 12 PA2, 13 PA3, 14 PA4, 15 PA5, 16 PA6, 17 PA7, 18 PB0, 19 PB1, 20 PB2, 21 PB10, 22 VCAP1, 23 VSS, 24 VDD, 25 PB12, 26 PB13, 27 PB14, 28 PB15, 29 PA8, 30 PA9, 31 PA10, 32 PA11, 33 PA12, 34 PA13, 35 VSS, 36 VDD, 37 PA14, 38 PA15, 39 PB3, 40 PB4, 41 PB5, 42 PB6, 43 PB7, 44 BOOT0, 45 PB8, 46 PB9, 47 VSS, 48 VDD, 49 VSS

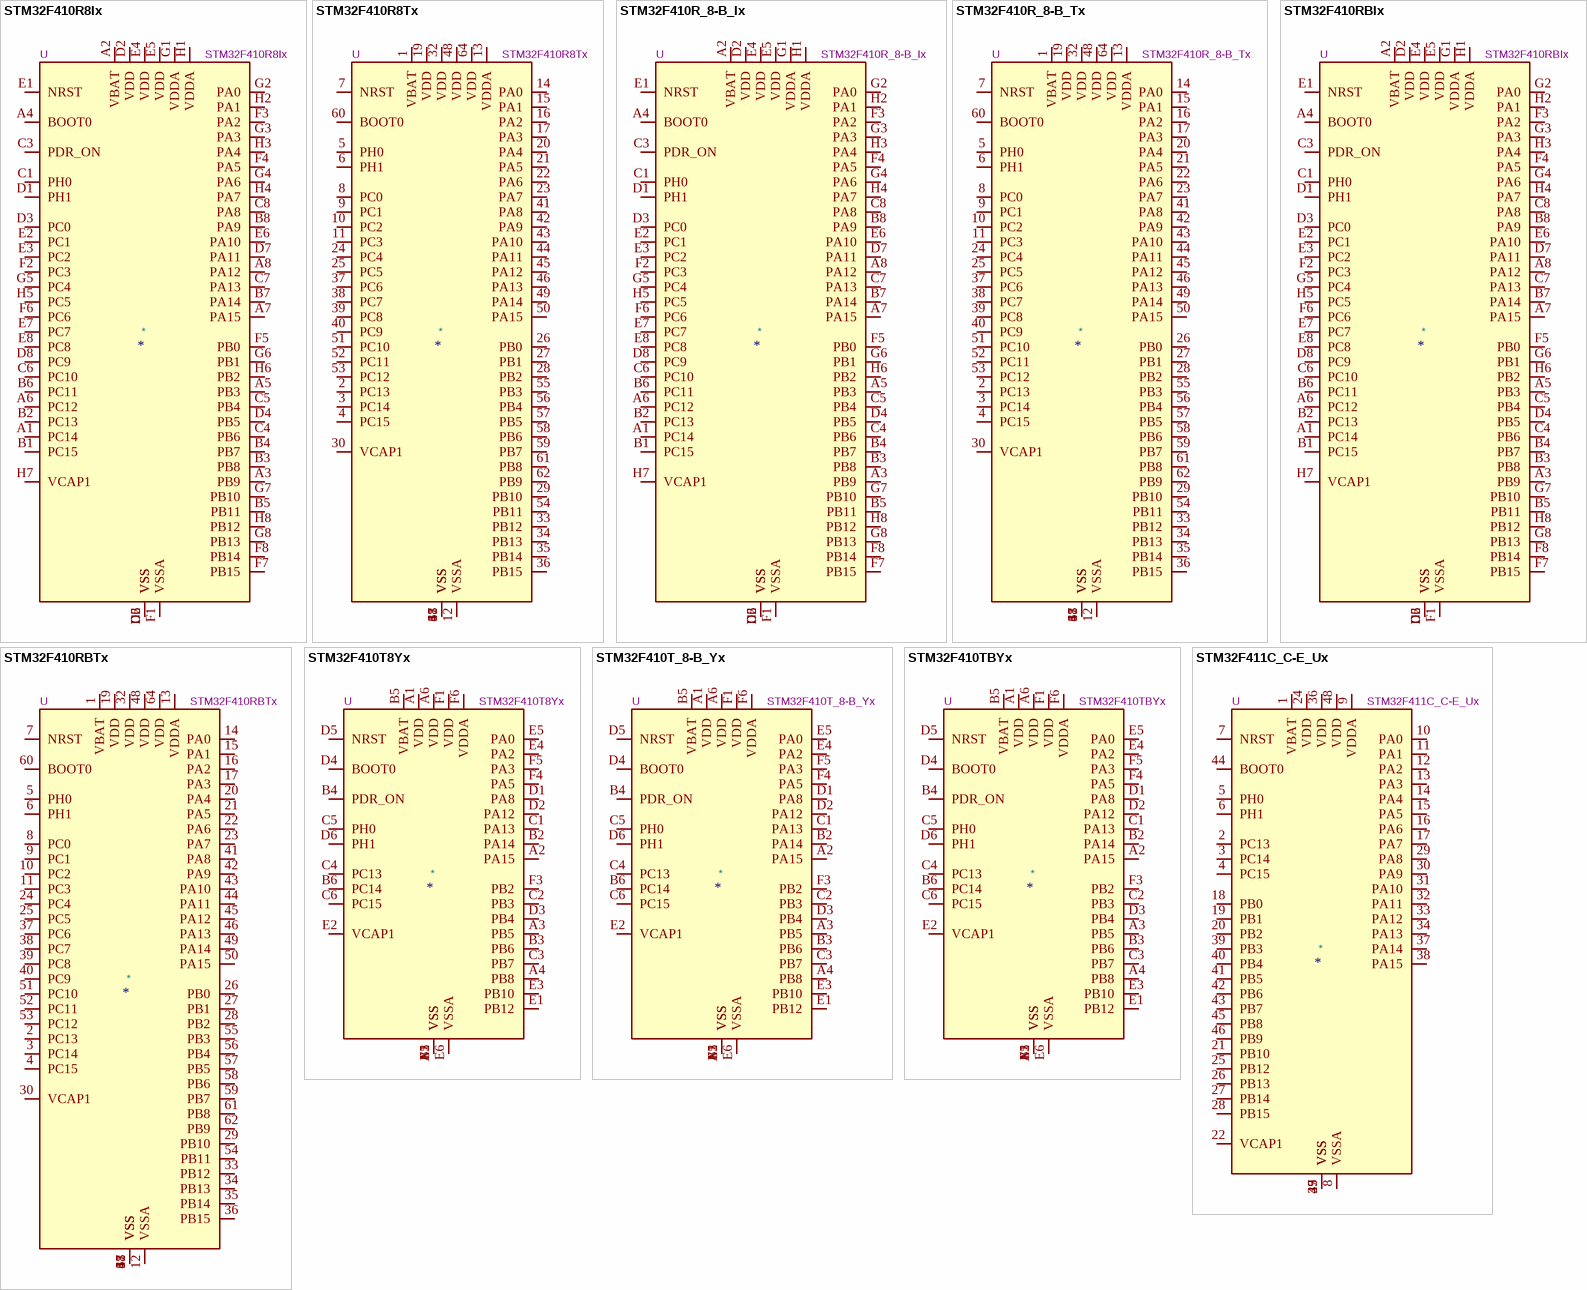
[diagram p11: symbols STM32F410R8Ix to STM32F411C_C-E_Ux]

## STM32F410R8Ix
designator *  value STM32F410R8Ix  Reference: U
STMicroelectronics Arm Cortex-M4 MCU, 64KB flash, 32KB RAM, 100 MHz, 1.7-3.6V, 50 GPIO, UFBGA64; ki_keywords: Arm Cortex-M4 STM32F4 STM32F410; ki_fp_filters: UFBGA*5x5mm*Layout8x8*P0.5mm*; Footprint: Package_BGA:UFBGA-64_5x5mm_Layout8x8_P0.5mm; Datasheet: https://www.st.com/resource/en/datasheet/stm32f410r8.pdf; Description_: STMicroelectronics Arm Cortex-M4 MCU, 64KB flash, 32KB RAM, 100 MHz, 1.7-3.6V, 50 GPIO, UFBGA64
pins: A1 PC14, A2 VBAT, A3 PB9, A4 BOOT0, A5 PB3, A6 PC12, A7 PA15, A8 PA12, B1 PC15, B2 PC13, B3 PB8, B4 PB7, B5 PB11, B6 PC11, B7 PA14, B8 PA9, C1 PH0, C2 VSS, C3 PDR_ON, C4 PB6, C5 PB4, C6 PC10, C7 PA13, C8 PA8, D1 PH1, D2 VDD, D3 PC0, D4 PB5, D5 VSS, D6 VSS, D7 PA11, D8 PC9, E1 NRST, E2 PC1, E3 PC2, E4 VDD, E5 VDD, E6 PA10, E7 PC7, E8 PC8, F1 VSSA, F2 PC3, F3 PA2, F4 PA5, F5 PB0, F6 PC6, F7 PB15, F8 PB14, G1 VDDA, G2 PA0, G3 PA3, G4 PA6, G5 PC4, G6 PB1, G7 PB10, G8 PB13, H1 VDDA, H2 PA1, H3 PA4, H4 PA7, H5 PC5, H6 PB2, H7 VCAP1, H8 PB12

## STM32F410R8Tx
designator *  value STM32F410R8Tx  Reference: U
STMicroelectronics Arm Cortex-M4 MCU, 64KB flash, 32KB RAM, 100 MHz, 1.7-3.6V, 50 GPIO, LQFP64; ki_keywords: Arm Cortex-M4 STM32F4 STM32F410; ki_fp_filters: LQFP*10x10mm*P0.5mm*; Footprint: Package_QFP:LQFP-64_10x10mm_P0.5mm; Datasheet: https://www.st.com/resource/en/datasheet/stm32f410r8.pdf; Description_: STMicroelectronics Arm Cortex-M4 MCU, 64KB flash, 32KB RAM, 100 MHz, 1.7-3.6V, 50 GPIO, LQFP64
pins: 1 VBAT, 2 PC13, 3 PC14, 4 PC15, 5 PH0, 6 PH1, 7 NRST, 8 PC0, 9 PC1, 10 PC2, 11 PC3, 12 VSSA, 13 VDDA, 14 PA0, 15 PA1, 16 PA2, 17 PA3, 18 VSS, 19 VDD, 20 PA4, 21 PA5, 22 PA6, 23 PA7, 24 PC4, 25 PC5, 26 PB0, 27 PB1, 28 PB2, 29 PB10, 30 VCAP1, 31 VSS, 32 VDD, 33 PB12, 34 PB13, 35 PB14, 36 PB15, 37 PC6, 38 PC7, 39 PC8, 40 PC9, 41 PA8, 42 PA9, 43 PA10, 44 PA11, 45 PA12, 46 PA13, 47 VSS, 48 VDD, 49 PA14, 50 PA15, 51 PC10, 52 PC11, 53 PC12, 54 PB11, 55 PB3, 56 PB4, 57 PB5, 58 PB6, 59 PB7, 60 BOOT0, 61 PB8, 62 PB9, 63 VSS, 64 VDD

## STM32F410R_8-B_Ix
designator *  value STM32F410R_8-B_Ix  Reference: U
STMicroelectronics Arm Cortex-M4 MCU, 64-128KB flash, 32KB RAM, 100 MHz, 1.7-3.6V, 50 GPIO, UFBGA64; ki_keywords: Arm Cortex-M4 STM32F4 STM32F410; ki_fp_filters: UFBGA*5x5mm*Layout8x8*P0.5mm*; Footprint: Package_BGA:UFBGA-64_5x5mm_Layout8x8_P0.5mm; Datasheet: https://www.st.com/resource/en/datasheet/stm32f410r8.pdf; Description_: STMicroelectronics Arm Cortex-M4 MCU, 64-128KB flash, 32KB RAM, 100 MHz, 1.7-3.6V, 50 GPIO, UFBGA64
pins: A1 PC14, A2 VBAT, A3 PB9, A4 BOOT0, A5 PB3, A6 PC12, A7 PA15, A8 PA12, B1 PC15, B2 PC13, B3 PB8, B4 PB7, B5 PB11, B6 PC11, B7 PA14, B8 PA9, C1 PH0, C2 VSS, C3 PDR_ON, C4 PB6, C5 PB4, C6 PC10, C7 PA13, C8 PA8, D1 PH1, D2 VDD, D3 PC0, D4 PB5, D5 VSS, D6 VSS, D7 PA11, D8 PC9, E1 NRST, E2 PC1, E3 PC2, E4 VDD, E5 VDD, E6 PA10, E7 PC7, E8 PC8, F1 VSSA, F2 PC3, F3 PA2, F4 PA5, F5 PB0, F6 PC6, F7 PB15, F8 PB14, G1 VDDA, G2 PA0, G3 PA3, G4 PA6, G5 PC4, G6 PB1, G7 PB10, G8 PB13, H1 VDDA, H2 PA1, H3 PA4, H4 PA7, H5 PC5, H6 PB2, H7 VCAP1, H8 PB12

## STM32F410R_8-B_Tx
designator *  value STM32F410R_8-B_Tx  Reference: U
STMicroelectronics Arm Cortex-M4 MCU, 64-128KB flash, 32KB RAM, 100 MHz, 1.7-3.6V, 50 GPIO, LQFP64; ki_keywords: Arm Cortex-M4 STM32F4 STM32F410; ki_fp_filters: LQFP*10x10mm*P0.5mm*; Footprint: Package_QFP:LQFP-64_10x10mm_P0.5mm; Datasheet: https://www.st.com/resource/en/datasheet/stm32f410r8.pdf; Description_: STMicroelectronics Arm Cortex-M4 MCU, 64-128KB flash, 32KB RAM, 100 MHz, 1.7-3.6V, 50 GPIO, LQFP64
pins: 1 VBAT, 2 PC13, 3 PC14, 4 PC15, 5 PH0, 6 PH1, 7 NRST, 8 PC0, 9 PC1, 10 PC2, 11 PC3, 12 VSSA, 13 VDDA, 14 PA0, 15 PA1, 16 PA2, 17 PA3, 18 VSS, 19 VDD, 20 PA4, 21 PA5, 22 PA6, 23 PA7, 24 PC4, 25 PC5, 26 PB0, 27 PB1, 28 PB2, 29 PB10, 30 VCAP1, 31 VSS, 32 VDD, 33 PB12, 34 PB13, 35 PB14, 36 PB15, 37 PC6, 38 PC7, 39 PC8, 40 PC9, 41 PA8, 42 PA9, 43 PA10, 44 PA11, 45 PA12, 46 PA13, 47 VSS, 48 VDD, 49 PA14, 50 PA15, 51 PC10, 52 PC11, 53 PC12, 54 PB11, 55 PB3, 56 PB4, 57 PB5, 58 PB6, 59 PB7, 60 BOOT0, 61 PB8, 62 PB9, 63 VSS, 64 VDD

## STM32F410RBIx
designator *  value STM32F410RBIx  Reference: U
STMicroelectronics Arm Cortex-M4 MCU, 128KB flash, 32KB RAM, 100 MHz, 1.7-3.6V, 50 GPIO, UFBGA64; ki_keywords: Arm Cortex-M4 STM32F4 STM32F410; ki_fp_filters: UFBGA*5x5mm*Layout8x8*P0.5mm*; Footprint: Package_BGA:UFBGA-64_5x5mm_Layout8x8_P0.5mm; Datasheet: https://www.st.com/resource/en/datasheet/stm32f410rb.pdf; Description_: STMicroelectronics Arm Cortex-M4 MCU, 128KB flash, 32KB RAM, 100 MHz, 1.7-3.6V, 50 GPIO, UFBGA64
pins: A1 PC14, A2 VBAT, A3 PB9, A4 BOOT0, A5 PB3, A6 PC12, A7 PA15, A8 PA12, B1 PC15, B2 PC13, B3 PB8, B4 PB7, B5 PB11, B6 PC11, B7 PA14, B8 PA9, C1 PH0, C2 VSS, C3 PDR_ON, C4 PB6, C5 PB4, C6 PC10, C7 PA13, C8 PA8, D1 PH1, D2 VDD, D3 PC0, D4 PB5, D5 VSS, D6 VSS, D7 PA11, D8 PC9, E1 NRST, E2 PC1, E3 PC2, E4 VDD, E5 VDD, E6 PA10, E7 PC7, E8 PC8, F1 VSSA, F2 PC3, F3 PA2, F4 PA5, F5 PB0, F6 PC6, F7 PB15, F8 PB14, G1 VDDA, G2 PA0, G3 PA3, G4 PA6, G5 PC4, G6 PB1, G7 PB10, G8 PB13, H1 VDDA, H2 PA1, H3 PA4, H4 PA7, H5 PC5, H6 PB2, H7 VCAP1, H8 PB12

## STM32F410RBTx
designator *  value STM32F410RBTx  Reference: U
STMicroelectronics Arm Cortex-M4 MCU, 128KB flash, 32KB RAM, 100 MHz, 1.7-3.6V, 50 GPIO, LQFP64; ki_keywords: Arm Cortex-M4 STM32F4 STM32F410; ki_fp_filters: LQFP*10x10mm*P0.5mm*; Footprint: Package_QFP:LQFP-64_10x10mm_P0.5mm; Datasheet: https://www.st.com/resource/en/datasheet/stm32f410rb.pdf; Description_: STMicroelectronics Arm Cortex-M4 MCU, 128KB flash, 32KB RAM, 100 MHz, 1.7-3.6V, 50 GPIO, LQFP64
pins: 1 VBAT, 2 PC13, 3 PC14, 4 PC15, 5 PH0, 6 PH1, 7 NRST, 8 PC0, 9 PC1, 10 PC2, 11 PC3, 12 VSSA, 13 VDDA, 14 PA0, 15 PA1, 16 PA2, 17 PA3, 18 VSS, 19 VDD, 20 PA4, 21 PA5, 22 PA6, 23 PA7, 24 PC4, 25 PC5, 26 PB0, 27 PB1, 28 PB2, 29 PB10, 30 VCAP1, 31 VSS, 32 VDD, 33 PB12, 34 PB13, 35 PB14, 36 PB15, 37 PC6, 38 PC7, 39 PC8, 40 PC9, 41 PA8, 42 PA9, 43 PA10, 44 PA11, 45 PA12, 46 PA13, 47 VSS, 48 VDD, 49 PA14, 50 PA15, 51 PC10, 52 PC11, 53 PC12, 54 PB11, 55 PB3, 56 PB4, 57 PB5, 58 PB6, 59 PB7, 60 BOOT0, 61 PB8, 62 PB9, 63 VSS, 64 VDD

## STM32F410T8Yx
designator *  value STM32F410T8Yx  Reference: U
STMicroelectronics Arm Cortex-M4 MCU, 64KB flash, 32KB RAM, 100 MHz, 1.7-3.6V, 23 GPIO, WLCSP36; ki_keywords: Arm Cortex-M4 STM32F4 STM32F410; ki_fp_filters: ST*WLCSP*Die458*; Footprint: Package_CSP:ST_WLCSP-36_Die458; Datasheet: https://www.st.com/resource/en/datasheet/stm32f410t8.pdf; Description_: STMicroelectronics Arm Cortex-M4 MCU, 64KB flash, 32KB RAM, 100 MHz, 1.7-3.6V, 23 GPIO, WLCSP36
pins: A1 VDD, A2 PA15, A3 PB5, A4 PB8, A5 VSS, A6 VDD, B1 VSS, B2 PA14, B3 PB6, B4 PDR_ON, B5 VBAT, B6 PC14, C1 PA13, C2 PB3, C3 PB7, C4 PC13, C5 PH0, C6 PC15, D1 PA8, D2 PA12, D3 PB4, D4 BOOT0, D5 NRST, D6 PH1, E1 PB12, E2 VCAP1, E3 PB10, E4 PA2, E5 PA0, E6 VSSA, F1 VDD, F2 VSS, F3 PB2, F4 PA5, F5 PA3, F6 VDDA

## STM32F410T_8-B_Yx
designator *  value STM32F410T_8-B_Yx  Reference: U
STMicroelectronics Arm Cortex-M4 MCU, 64-128KB flash, 32KB RAM, 100 MHz, 1.7-3.6V, 23 GPIO, WLCSP36; ki_keywords: Arm Cortex-M4 STM32F4 STM32F410; ki_fp_filters: ST*WLCSP*Die458*; Footprint: Package_CSP:ST_WLCSP-36_Die458; Datasheet: https://www.st.com/resource/en/datasheet/stm32f410t8.pdf; Description_: STMicroelectronics Arm Cortex-M4 MCU, 64-128KB flash, 32KB RAM, 100 MHz, 1.7-3.6V, 23 GPIO, WLCSP36
pins: A1 VDD, A2 PA15, A3 PB5, A4 PB8, A5 VSS, A6 VDD, B1 VSS, B2 PA14, B3 PB6, B4 PDR_ON, B5 VBAT, B6 PC14, C1 PA13, C2 PB3, C3 PB7, C4 PC13, C5 PH0, C6 PC15, D1 PA8, D2 PA12, D3 PB4, D4 BOOT0, D5 NRST, D6 PH1, E1 PB12, E2 VCAP1, E3 PB10, E4 PA2, E5 PA0, E6 VSSA, F1 VDD, F2 VSS, F3 PB2, F4 PA5, F5 PA3, F6 VDDA

## STM32F410TBYx
designator *  value STM32F410TBYx  Reference: U
STMicroelectronics Arm Cortex-M4 MCU, 128KB flash, 32KB RAM, 100 MHz, 1.7-3.6V, 23 GPIO, WLCSP36; ki_keywords: Arm Cortex-M4 STM32F4 STM32F410; ki_fp_filters: ST*WLCSP*Die458*; Footprint: Package_CSP:ST_WLCSP-36_Die458; Datasheet: https://www.st.com/resource/en/datasheet/stm32f410tb.pdf; Description_: STMicroelectronics Arm Cortex-M4 MCU, 128KB flash, 32KB RAM, 100 MHz, 1.7-3.6V, 23 GPIO, WLCSP36
pins: A1 VDD, A2 PA15, A3 PB5, A4 PB8, A5 VSS, A6 VDD, B1 VSS, B2 PA14, B3 PB6, B4 PDR_ON, B5 VBAT, B6 PC14, C1 PA13, C2 PB3, C3 PB7, C4 PC13, C5 PH0, C6 PC15, D1 PA8, D2 PA12, D3 PB4, D4 BOOT0, D5 NRST, D6 PH1, E1 PB12, E2 VCAP1, E3 PB10, E4 PA2, E5 PA0, E6 VSSA, F1 VDD, F2 VSS, F3 PB2, F4 PA5, F5 PA3, F6 VDDA

## STM32F411C_C-E_Ux
designator *  value STM32F411C_C-E_Ux  Reference: U
STMicroelectronics Arm Cortex-M4 MCU, 256-512KB flash, 128KB RAM, 100 MHz, 1.7-3.6V, 36 GPIO, UFQFPN48; ki_keywords: Arm Cortex-M4 STM32F4 STM32F411; ki_fp_filters: QFN*1EP*7x7mm*P0.5mm*; Footprint: Package_DFN_QFN:QFN-48-1EP_7x7mm_P0.5mm_EP5.6x5.6mm; Datasheet: https://www.st.com/resource/en/datasheet/stm32f411cc.pdf; Description_: STMicroelectronics Arm Cortex-M4 MCU, 256-512KB flash, 128KB RAM, 100 MHz, 1.7-3.6V, 36 GPIO, UFQFPN48
pins: 1 VBAT, 2 PC13, 3 PC14, 4 PC15, 5 PH0, 6 PH1, 7 NRST, 8 VSSA, 9 VDDA, 10 PA0, 11 PA1, 12 PA2, 13 PA3, 14 PA4, 15 PA5, 16 PA6, 17 PA7, 18 PB0, 19 PB1, 20 PB2, 21 PB10, 22 VCAP1, 23 VSS, 24 VDD, 25 PB12, 26 PB13, 27 PB14, 28 PB15, 29 PA8, 30 PA9, 31 PA10, 32 PA11, 33 PA12, 34 PA13, 35 VSS, 36 VDD, 37 PA14, 38 PA15, 39 PB3, 40 PB4, 41 PB5, 42 PB6, 43 PB7, 44 BOOT0, 45 PB8, 46 PB9, 47 VSS, 48 VDD, 49 VSS

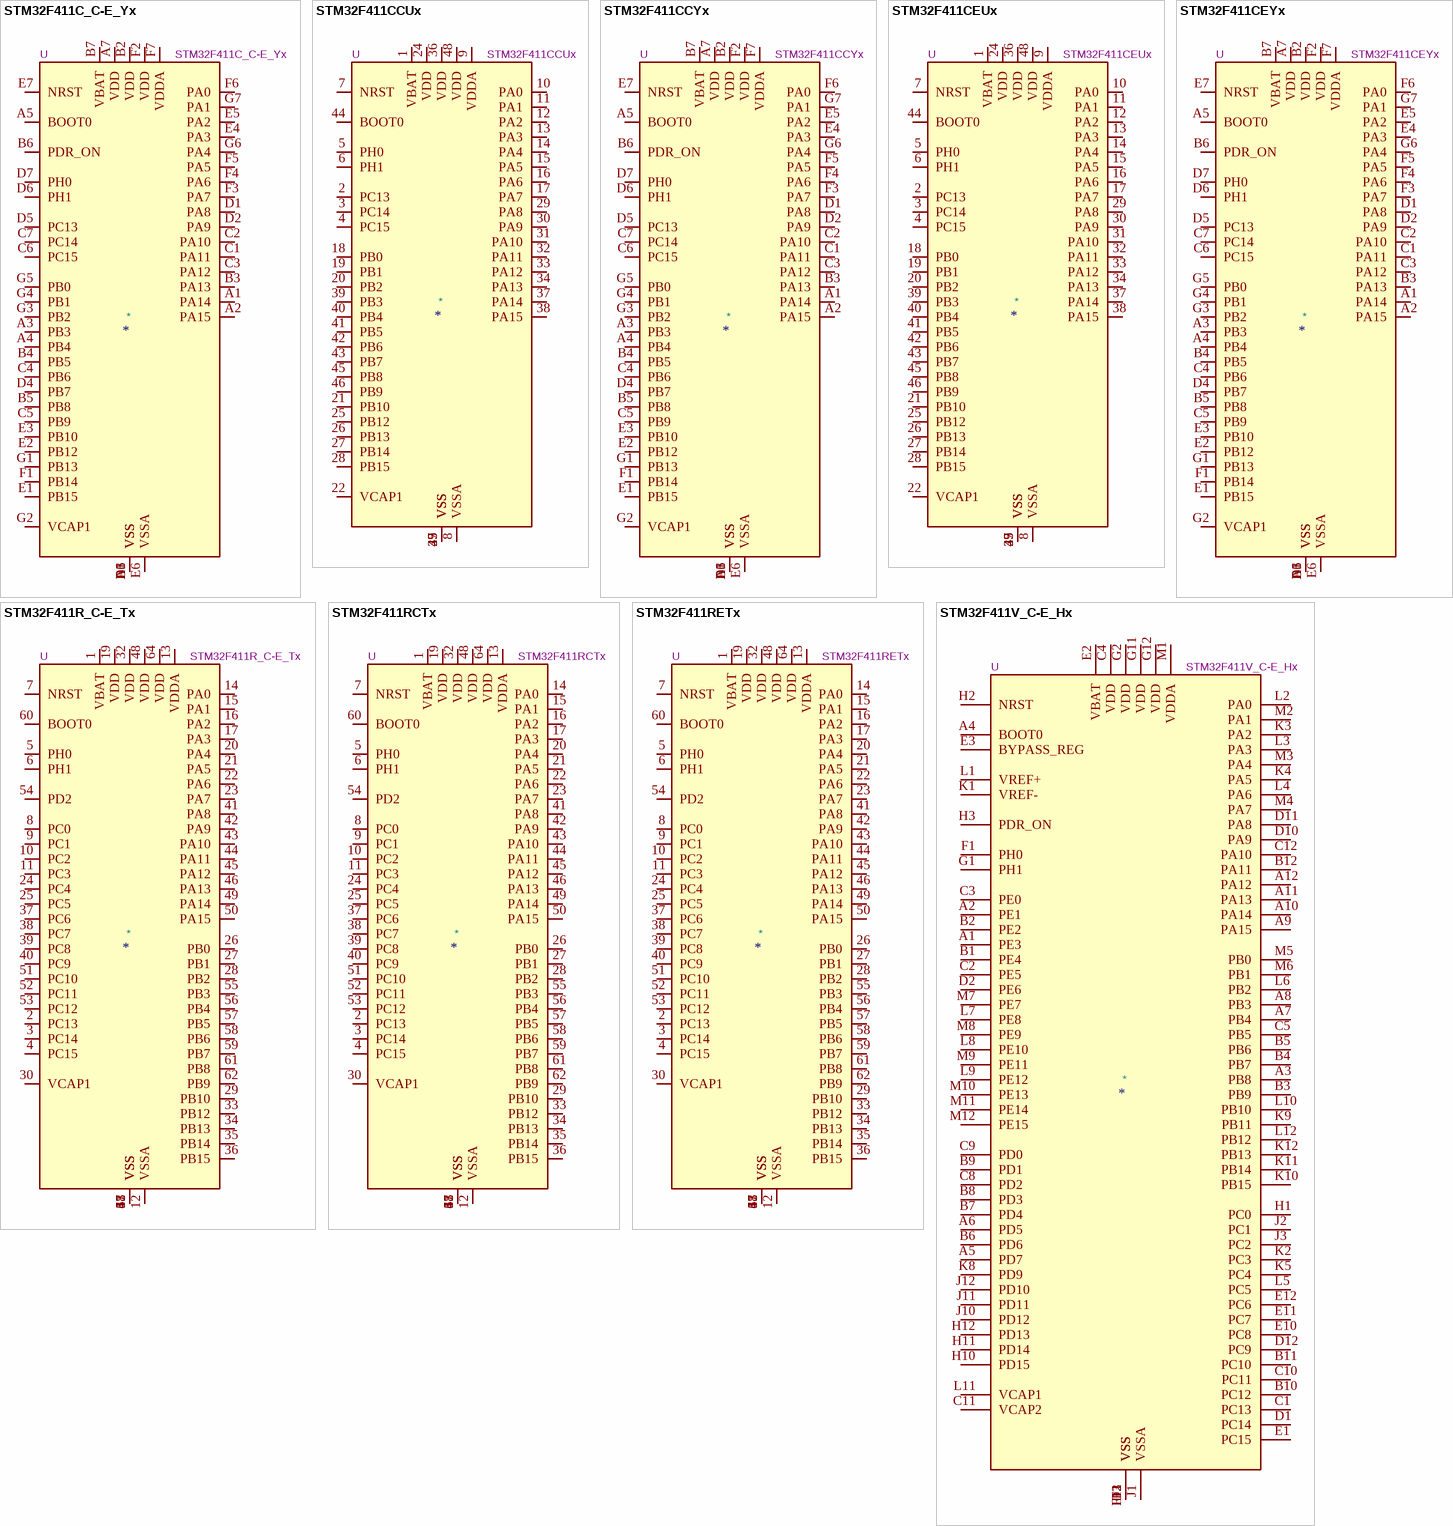
[diagram p12: symbols STM32F411C_C-E_Yx to STM32F411V_C-E_Hx]

## STM32F411C_C-E_Yx
designator *  value STM32F411C_C-E_Yx  Reference: U
STMicroelectronics Arm Cortex-M4 MCU, 256-512KB flash, 128KB RAM, 100 MHz, 1.7-3.6V, 36 GPIO, WLCSP49; ki_keywords: Arm Cortex-M4 STM32F4 STM32F411; ki_fp_filters: ST*WLCSP*Die431*; Footprint: Package_CSP:ST_WLCSP-49_Die431; Datasheet: https://www.st.com/resource/en/datasheet/stm32f411cc.pdf; Description_: STMicroelectronics Arm Cortex-M4 MCU, 256-512KB flash, 128KB RAM, 100 MHz, 1.7-3.6V, 36 GPIO, WLCSP49
pins: A1 PA14, A2 PA15, A3 PB3, A4 PB4, A5 BOOT0, A6 VSS, A7 VDD, B1 VSS, B2 VDD, B3 PA13, B4 PB5, B5 PB8, B6 PDR_ON, B7 VBAT, C1 PA11, C2 PA10, C3 PA12, C4 PB6, C5 PB9, C6 PC15, C7 PC14, D1 PA8, D2 PA9, D3 VSS, D4 PB7, D5 PC13, D6 PH1, D7 PH0, E1 PB15, E2 PB12, E3 PB10, E4 PA3, E5 PA2, E6 VSSA, E7 NRST, F1 PB14, F2 VDD, F3 PA7, F4 PA6, F5 PA5, F6 PA0, F7 VDDA, G1 PB13, G2 VCAP1, G3 PB2, G4 PB1, G5 PB0, G6 PA4, G7 PA1

## STM32F411CCUx
designator *  value STM32F411CCUx  Reference: U
STMicroelectronics Arm Cortex-M4 MCU, 256KB flash, 128KB RAM, 100 MHz, 1.7-3.6V, 36 GPIO, UFQFPN48; ki_keywords: Arm Cortex-M4 STM32F4 STM32F411; ki_fp_filters: QFN*1EP*7x7mm*P0.5mm*; Footprint: Package_DFN_QFN:QFN-48-1EP_7x7mm_P0.5mm_EP5.6x5.6mm; Datasheet: https://www.st.com/resource/en/datasheet/stm32f411cc.pdf; Description_: STMicroelectronics Arm Cortex-M4 MCU, 256KB flash, 128KB RAM, 100 MHz, 1.7-3.6V, 36 GPIO, UFQFPN48
pins: 1 VBAT, 2 PC13, 3 PC14, 4 PC15, 5 PH0, 6 PH1, 7 NRST, 8 VSSA, 9 VDDA, 10 PA0, 11 PA1, 12 PA2, 13 PA3, 14 PA4, 15 PA5, 16 PA6, 17 PA7, 18 PB0, 19 PB1, 20 PB2, 21 PB10, 22 VCAP1, 23 VSS, 24 VDD, 25 PB12, 26 PB13, 27 PB14, 28 PB15, 29 PA8, 30 PA9, 31 PA10, 32 PA11, 33 PA12, 34 PA13, 35 VSS, 36 VDD, 37 PA14, 38 PA15, 39 PB3, 40 PB4, 41 PB5, 42 PB6, 43 PB7, 44 BOOT0, 45 PB8, 46 PB9, 47 VSS, 48 VDD, 49 VSS

## STM32F411CCYx
designator *  value STM32F411CCYx  Reference: U
STMicroelectronics Arm Cortex-M4 MCU, 256KB flash, 128KB RAM, 100 MHz, 1.7-3.6V, 36 GPIO, WLCSP49; ki_keywords: Arm Cortex-M4 STM32F4 STM32F411; ki_fp_filters: ST*WLCSP*Die431*; Footprint: Package_CSP:ST_WLCSP-49_Die431; Datasheet: https://www.st.com/resource/en/datasheet/stm32f411cc.pdf; Description_: STMicroelectronics Arm Cortex-M4 MCU, 256KB flash, 128KB RAM, 100 MHz, 1.7-3.6V, 36 GPIO, WLCSP49
pins: A1 PA14, A2 PA15, A3 PB3, A4 PB4, A5 BOOT0, A6 VSS, A7 VDD, B1 VSS, B2 VDD, B3 PA13, B4 PB5, B5 PB8, B6 PDR_ON, B7 VBAT, C1 PA11, C2 PA10, C3 PA12, C4 PB6, C5 PB9, C6 PC15, C7 PC14, D1 PA8, D2 PA9, D3 VSS, D4 PB7, D5 PC13, D6 PH1, D7 PH0, E1 PB15, E2 PB12, E3 PB10, E4 PA3, E5 PA2, E6 VSSA, E7 NRST, F1 PB14, F2 VDD, F3 PA7, F4 PA6, F5 PA5, F6 PA0, F7 VDDA, G1 PB13, G2 VCAP1, G3 PB2, G4 PB1, G5 PB0, G6 PA4, G7 PA1

## STM32F411CEUx
designator *  value STM32F411CEUx  Reference: U
STMicroelectronics Arm Cortex-M4 MCU, 512KB flash, 128KB RAM, 100 MHz, 1.7-3.6V, 36 GPIO, UFQFPN48; ki_keywords: Arm Cortex-M4 STM32F4 STM32F411; ki_fp_filters: QFN*1EP*7x7mm*P0.5mm*; Footprint: Package_DFN_QFN:QFN-48-1EP_7x7mm_P0.5mm_EP5.6x5.6mm; Datasheet: https://www.st.com/resource/en/datasheet/stm32f411ce.pdf; Description_: STMicroelectronics Arm Cortex-M4 MCU, 512KB flash, 128KB RAM, 100 MHz, 1.7-3.6V, 36 GPIO, UFQFPN48
pins: 1 VBAT, 2 PC13, 3 PC14, 4 PC15, 5 PH0, 6 PH1, 7 NRST, 8 VSSA, 9 VDDA, 10 PA0, 11 PA1, 12 PA2, 13 PA3, 14 PA4, 15 PA5, 16 PA6, 17 PA7, 18 PB0, 19 PB1, 20 PB2, 21 PB10, 22 VCAP1, 23 VSS, 24 VDD, 25 PB12, 26 PB13, 27 PB14, 28 PB15, 29 PA8, 30 PA9, 31 PA10, 32 PA11, 33 PA12, 34 PA13, 35 VSS, 36 VDD, 37 PA14, 38 PA15, 39 PB3, 40 PB4, 41 PB5, 42 PB6, 43 PB7, 44 BOOT0, 45 PB8, 46 PB9, 47 VSS, 48 VDD, 49 VSS

## STM32F411CEYx
designator *  value STM32F411CEYx  Reference: U
STMicroelectronics Arm Cortex-M4 MCU, 512KB flash, 128KB RAM, 100 MHz, 1.7-3.6V, 36 GPIO, WLCSP49; ki_keywords: Arm Cortex-M4 STM32F4 STM32F411; ki_fp_filters: ST*WLCSP*Die431*; Footprint: Package_CSP:ST_WLCSP-49_Die431; Datasheet: https://www.st.com/resource/en/datasheet/stm32f411ce.pdf; Description_: STMicroelectronics Arm Cortex-M4 MCU, 512KB flash, 128KB RAM, 100 MHz, 1.7-3.6V, 36 GPIO, WLCSP49
pins: A1 PA14, A2 PA15, A3 PB3, A4 PB4, A5 BOOT0, A6 VSS, A7 VDD, B1 VSS, B2 VDD, B3 PA13, B4 PB5, B5 PB8, B6 PDR_ON, B7 VBAT, C1 PA11, C2 PA10, C3 PA12, C4 PB6, C5 PB9, C6 PC15, C7 PC14, D1 PA8, D2 PA9, D3 VSS, D4 PB7, D5 PC13, D6 PH1, D7 PH0, E1 PB15, E2 PB12, E3 PB10, E4 PA3, E5 PA2, E6 VSSA, E7 NRST, F1 PB14, F2 VDD, F3 PA7, F4 PA6, F5 PA5, F6 PA0, F7 VDDA, G1 PB13, G2 VCAP1, G3 PB2, G4 PB1, G5 PB0, G6 PA4, G7 PA1

## STM32F411R_C-E_Tx
designator *  value STM32F411R_C-E_Tx  Reference: U
STMicroelectronics Arm Cortex-M4 MCU, 256-512KB flash, 128KB RAM, 100 MHz, 1.7-3.6V, 50 GPIO, LQFP64; ki_keywords: Arm Cortex-M4 STM32F4 STM32F411; ki_fp_filters: LQFP*10x10mm*P0.5mm*; Footprint: Package_QFP:LQFP-64_10x10mm_P0.5mm; Datasheet: https://www.st.com/resource/en/datasheet/stm32f411rc.pdf; Description_: STMicroelectronics Arm Cortex-M4 MCU, 256-512KB flash, 128KB RAM, 100 MHz, 1.7-3.6V, 50 GPIO, LQFP64
pins: 1 VBAT, 2 PC13, 3 PC14, 4 PC15, 5 PH0, 6 PH1, 7 NRST, 8 PC0, 9 PC1, 10 PC2, 11 PC3, 12 VSSA, 13 VDDA, 14 PA0, 15 PA1, 16 PA2, 17 PA3, 18 VSS, 19 VDD, 20 PA4, 21 PA5, 22 PA6, 23 PA7, 24 PC4, 25 PC5, 26 PB0, 27 PB1, 28 PB2, 29 PB10, 30 VCAP1, 31 VSS, 32 VDD, 33 PB12, 34 PB13, 35 PB14, 36 PB15, 37 PC6, 38 PC7, 39 PC8, 40 PC9, 41 PA8, 42 PA9, 43 PA10, 44 PA11, 45 PA12, 46 PA13, 47 VSS, 48 VDD, 49 PA14, 50 PA15, 51 PC10, 52 PC11, 53 PC12, 54 PD2, 55 PB3, 56 PB4, 57 PB5, 58 PB6, 59 PB7, 60 BOOT0, 61 PB8, 62 PB9, 63 VSS, 64 VDD

## STM32F411RCTx
designator *  value STM32F411RCTx  Reference: U
STMicroelectronics Arm Cortex-M4 MCU, 256KB flash, 128KB RAM, 100 MHz, 1.7-3.6V, 50 GPIO, LQFP64; ki_keywords: Arm Cortex-M4 STM32F4 STM32F411; ki_fp_filters: LQFP*10x10mm*P0.5mm*; Footprint: Package_QFP:LQFP-64_10x10mm_P0.5mm; Datasheet: https://www.st.com/resource/en/datasheet/stm32f411rc.pdf; Description_: STMicroelectronics Arm Cortex-M4 MCU, 256KB flash, 128KB RAM, 100 MHz, 1.7-3.6V, 50 GPIO, LQFP64
pins: 1 VBAT, 2 PC13, 3 PC14, 4 PC15, 5 PH0, 6 PH1, 7 NRST, 8 PC0, 9 PC1, 10 PC2, 11 PC3, 12 VSSA, 13 VDDA, 14 PA0, 15 PA1, 16 PA2, 17 PA3, 18 VSS, 19 VDD, 20 PA4, 21 PA5, 22 PA6, 23 PA7, 24 PC4, 25 PC5, 26 PB0, 27 PB1, 28 PB2, 29 PB10, 30 VCAP1, 31 VSS, 32 VDD, 33 PB12, 34 PB13, 35 PB14, 36 PB15, 37 PC6, 38 PC7, 39 PC8, 40 PC9, 41 PA8, 42 PA9, 43 PA10, 44 PA11, 45 PA12, 46 PA13, 47 VSS, 48 VDD, 49 PA14, 50 PA15, 51 PC10, 52 PC11, 53 PC12, 54 PD2, 55 PB3, 56 PB4, 57 PB5, 58 PB6, 59 PB7, 60 BOOT0, 61 PB8, 62 PB9, 63 VSS, 64 VDD

## STM32F411RETx
designator *  value STM32F411RETx  Reference: U
STMicroelectronics Arm Cortex-M4 MCU, 512KB flash, 128KB RAM, 100 MHz, 1.7-3.6V, 50 GPIO, LQFP64; ki_keywords: Arm Cortex-M4 STM32F4 STM32F411; ki_fp_filters: LQFP*10x10mm*P0.5mm*; Footprint: Package_QFP:LQFP-64_10x10mm_P0.5mm; Datasheet: https://www.st.com/resource/en/datasheet/stm32f411re.pdf; Description_: STMicroelectronics Arm Cortex-M4 MCU, 512KB flash, 128KB RAM, 100 MHz, 1.7-3.6V, 50 GPIO, LQFP64
pins: 1 VBAT, 2 PC13, 3 PC14, 4 PC15, 5 PH0, 6 PH1, 7 NRST, 8 PC0, 9 PC1, 10 PC2, 11 PC3, 12 VSSA, 13 VDDA, 14 PA0, 15 PA1, 16 PA2, 17 PA3, 18 VSS, 19 VDD, 20 PA4, 21 PA5, 22 PA6, 23 PA7, 24 PC4, 25 PC5, 26 PB0, 27 PB1, 28 PB2, 29 PB10, 30 VCAP1, 31 VSS, 32 VDD, 33 PB12, 34 PB13, 35 PB14, 36 PB15, 37 PC6, 38 PC7, 39 PC8, 40 PC9, 41 PA8, 42 PA9, 43 PA10, 44 PA11, 45 PA12, 46 PA13, 47 VSS, 48 VDD, 49 PA14, 50 PA15, 51 PC10, 52 PC11, 53 PC12, 54 PD2, 55 PB3, 56 PB4, 57 PB5, 58 PB6, 59 PB7, 60 BOOT0, 61 PB8, 62 PB9, 63 VSS, 64 VDD

## STM32F411V_C-E_Hx
designator *  value STM32F411V_C-E_Hx  Reference: U
STMicroelectronics Arm Cortex-M4 MCU, 256-512KB flash, 128KB RAM, 100 MHz, 1.7-3.6V, 81 GPIO, UFBGA100; ki_keywords: Arm Cortex-M4 STM32F4 STM32F411; ki_fp_filters: UFBGA*7x7mm*Layout12x12*P0.5mm*; Footprint: Package_BGA:UFBGA-100_7x7mm_Layout12x12_P0.5mm; Datasheet: https://www.st.com/resource/en/datasheet/stm32f411vc.pdf; Description_: STMicroelectronics Arm Cortex-M4 MCU, 256-512KB flash, 128KB RAM, 100 MHz, 1.7-3.6V, 81 GPIO, UFBGA100
pins: A1 PE3, A2 PE1, A3 PB8, A4 BOOT0, A5 PD7, A6 PD5, A7 PB4, A8 PB3, A9 PA15, A10 PA14, A11 PA13, A12 PA12, B1 PE4, B2 PE2, B3 PB9, B4 PB7, B5 PB6, B6 PD6, B7 PD4, B8 PD3, B9 PD1, B10 PC12, B11 PC10, B12 PA11, C1 PC13, C2 PE5, C3 PE0, C4 VDD, C5 PB5, C8 PD2, C9 PD0, C10 PC11, C11 VCAP2, C12 PA10, D1 PC14, D2 PE6, D3 VSS, D10 PA9, D11 PA8, D12 PC9, E1 PC15, E2 VBAT, E3 BYPASS_REG, E10 PC8, E11 PC7, E12 PC6, F1 PH0, F2 VSS, F11 VSS, F12 VSS, G1 PH1, G2 VDD, G11 VDD, G12 VDD, H1 PC0, H2 NRST, H3 PDR_ON, H10 PD15, H11 PD14, H12 PD13, J1 VSSA, J2 PC1, J3 PC2, J10 PD12, J11 PD11, J12 PD10, K1 VREF-, K2 PC3, K3 PA2, K4 PA5, K5 PC4, K8 PD9, K9 PB11, K10 PB15, K11 PB14, K12 PB13, L1 VREF+, L2 PA0, L3 PA3, L4 PA6, L5 PC5, L6 PB2, L7 PE8, L8 PE10, L9 PE12, L10 PB10, L11 VCAP1, L12 PB12, M1 VDDA, M2 PA1, M3 PA4, M4 PA7, M5 PB0, M6 PB1, M7 PE7, M8 PE9, M9 PE11, M10 PE13, M11 PE14, M12 PE15

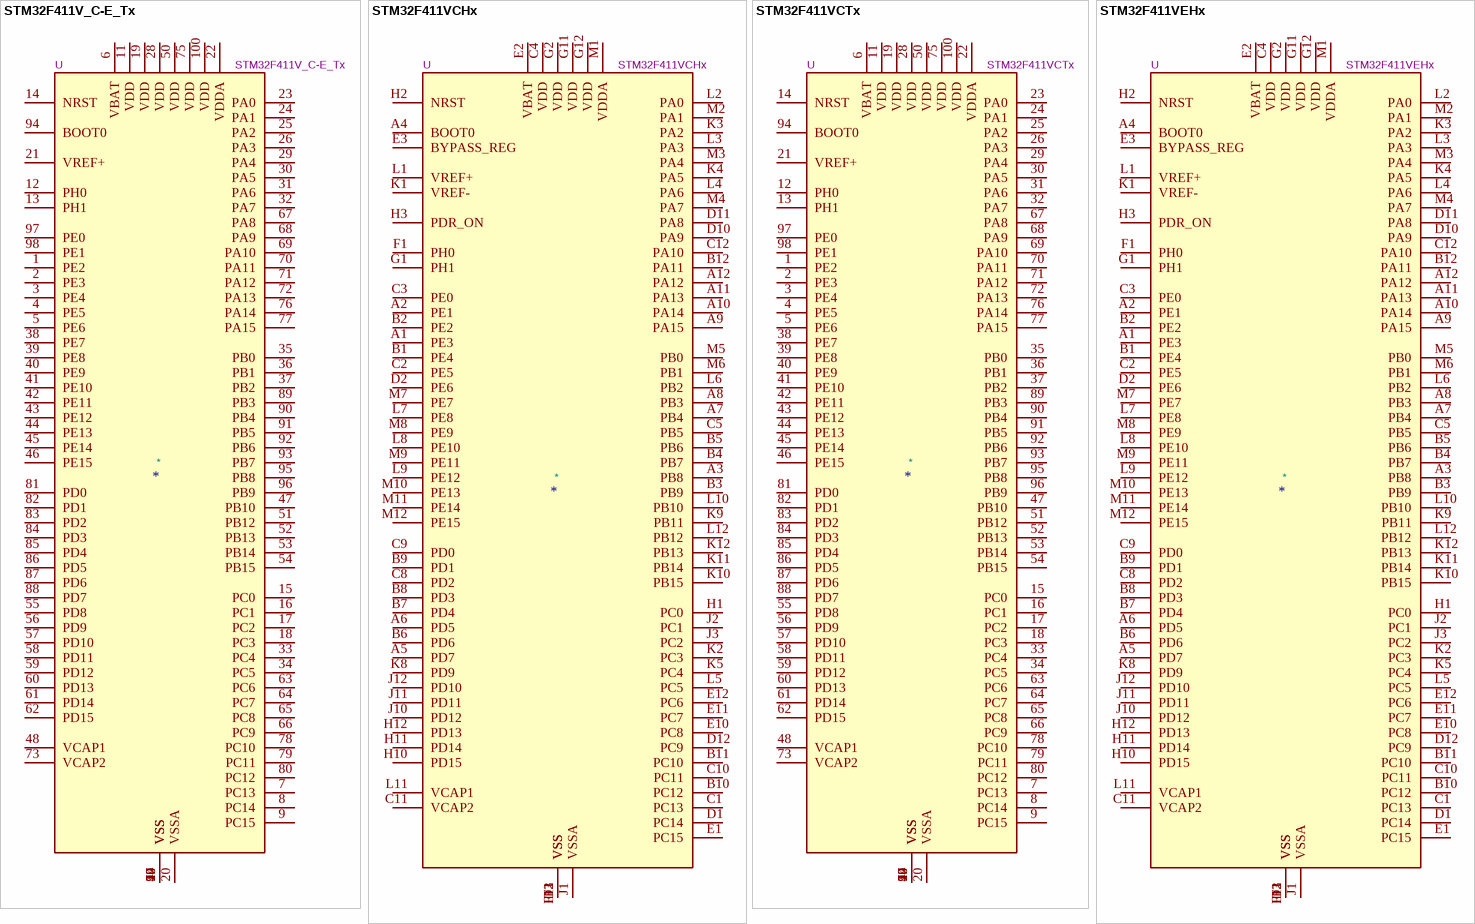
[diagram p13: symbols STM32F411V_C-E_Tx to STM32F411VEHx]

## STM32F411V_C-E_Tx
designator *  value STM32F411V_C-E_Tx  Reference: U
STMicroelectronics Arm Cortex-M4 MCU, 256-512KB flash, 128KB RAM, 100 MHz, 1.7-3.6V, 81 GPIO, LQFP100; ki_keywords: Arm Cortex-M4 STM32F4 STM32F411; ki_fp_filters: LQFP*14x14mm*P0.5mm*; Footprint: Package_QFP:LQFP-100_14x14mm_P0.5mm; Datasheet: https://www.st.com/resource/en/datasheet/stm32f411vc.pdf; Description_: STMicroelectronics Arm Cortex-M4 MCU, 256-512KB flash, 128KB RAM, 100 MHz, 1.7-3.6V, 81 GPIO, LQFP100
pins: 1 PE2, 2 PE3, 3 PE4, 4 PE5, 5 PE6, 6 VBAT, 7 PC13, 8 PC14, 9 PC15, 10 VSS, 11 VDD, 12 PH0, 13 PH1, 14 NRST, 15 PC0, 16 PC1, 17 PC2, 18 PC3, 19 VDD, 20 VSSA, 21 VREF+, 22 VDDA, 23 PA0, 24 PA1, 25 PA2, 26 PA3, 27 VSS, 28 VDD, 29 PA4, 30 PA5, 31 PA6, 32 PA7, 33 PC4, 34 PC5, 35 PB0, 36 PB1, 37 PB2, 38 PE7, 39 PE8, 40 PE9, 41 PE10, 42 PE11, 43 PE12, 44 PE13, 45 PE14, 46 PE15, 47 PB10, 48 VCAP1, 49 VSS, 50 VDD, 51 PB12, 52 PB13, 53 PB14, 54 PB15, 55 PD8, 56 PD9, 57 PD10, 58 PD11, 59 PD12, 60 PD13, 61 PD14, 62 PD15, 63 PC6, 64 PC7, 65 PC8, 66 PC9, 67 PA8, 68 PA9, 69 PA10, 70 PA11, 71 PA12, 72 PA13, 73 VCAP2, 74 VSS, 75 VDD, 76 PA14, 77 PA15, 78 PC10, 79 PC11, 80 PC12, 81 PD0, 82 PD1, 83 PD2, 84 PD3, 85 PD4, 86 PD5, 87 PD6, 88 PD7, 89 PB3, 90 PB4, 91 PB5, 92 PB6, 93 PB7, 94 BOOT0, 95 PB8, 96 PB9, 97 PE0, 98 PE1, 99 VSS, 100 VDD

## STM32F411VCHx
designator *  value STM32F411VCHx  Reference: U
STMicroelectronics Arm Cortex-M4 MCU, 256KB flash, 128KB RAM, 100 MHz, 1.7-3.6V, 81 GPIO, UFBGA100; ki_keywords: Arm Cortex-M4 STM32F4 STM32F411; ki_fp_filters: UFBGA*7x7mm*Layout12x12*P0.5mm*; Footprint: Package_BGA:UFBGA-100_7x7mm_Layout12x12_P0.5mm; Datasheet: https://www.st.com/resource/en/datasheet/stm32f411vc.pdf; Description_: STMicroelectronics Arm Cortex-M4 MCU, 256KB flash, 128KB RAM, 100 MHz, 1.7-3.6V, 81 GPIO, UFBGA100
pins: A1 PE3, A2 PE1, A3 PB8, A4 BOOT0, A5 PD7, A6 PD5, A7 PB4, A8 PB3, A9 PA15, A10 PA14, A11 PA13, A12 PA12, B1 PE4, B2 PE2, B3 PB9, B4 PB7, B5 PB6, B6 PD6, B7 PD4, B8 PD3, B9 PD1, B10 PC12, B11 PC10, B12 PA11, C1 PC13, C2 PE5, C3 PE0, C4 VDD, C5 PB5, C8 PD2, C9 PD0, C10 PC11, C11 VCAP2, C12 PA10, D1 PC14, D2 PE6, D3 VSS, D10 PA9, D11 PA8, D12 PC9, E1 PC15, E2 VBAT, E3 BYPASS_REG, E10 PC8, E11 PC7, E12 PC6, F1 PH0, F2 VSS, F11 VSS, F12 VSS, G1 PH1, G2 VDD, G11 VDD, G12 VDD, H1 PC0, H2 NRST, H3 PDR_ON, H10 PD15, H11 PD14, H12 PD13, J1 VSSA, J2 PC1, J3 PC2, J10 PD12, J11 PD11, J12 PD10, K1 VREF-, K2 PC3, K3 PA2, K4 PA5, K5 PC4, K8 PD9, K9 PB11, K10 PB15, K11 PB14, K12 PB13, L1 VREF+, L2 PA0, L3 PA3, L4 PA6, L5 PC5, L6 PB2, L7 PE8, L8 PE10, L9 PE12, L10 PB10, L11 VCAP1, L12 PB12, M1 VDDA, M2 PA1, M3 PA4, M4 PA7, M5 PB0, M6 PB1, M7 PE7, M8 PE9, M9 PE11, M10 PE13, M11 PE14, M12 PE15

## STM32F411VCTx
designator *  value STM32F411VCTx  Reference: U
STMicroelectronics Arm Cortex-M4 MCU, 256KB flash, 128KB RAM, 100 MHz, 1.7-3.6V, 81 GPIO, LQFP100; ki_keywords: Arm Cortex-M4 STM32F4 STM32F411; ki_fp_filters: LQFP*14x14mm*P0.5mm*; Footprint: Package_QFP:LQFP-100_14x14mm_P0.5mm; Datasheet: https://www.st.com/resource/en/datasheet/stm32f411vc.pdf; Description_: STMicroelectronics Arm Cortex-M4 MCU, 256KB flash, 128KB RAM, 100 MHz, 1.7-3.6V, 81 GPIO, LQFP100
pins: 1 PE2, 2 PE3, 3 PE4, 4 PE5, 5 PE6, 6 VBAT, 7 PC13, 8 PC14, 9 PC15, 10 VSS, 11 VDD, 12 PH0, 13 PH1, 14 NRST, 15 PC0, 16 PC1, 17 PC2, 18 PC3, 19 VDD, 20 VSSA, 21 VREF+, 22 VDDA, 23 PA0, 24 PA1, 25 PA2, 26 PA3, 27 VSS, 28 VDD, 29 PA4, 30 PA5, 31 PA6, 32 PA7, 33 PC4, 34 PC5, 35 PB0, 36 PB1, 37 PB2, 38 PE7, 39 PE8, 40 PE9, 41 PE10, 42 PE11, 43 PE12, 44 PE13, 45 PE14, 46 PE15, 47 PB10, 48 VCAP1, 49 VSS, 50 VDD, 51 PB12, 52 PB13, 53 PB14, 54 PB15, 55 PD8, 56 PD9, 57 PD10, 58 PD11, 59 PD12, 60 PD13, 61 PD14, 62 PD15, 63 PC6, 64 PC7, 65 PC8, 66 PC9, 67 PA8, 68 PA9, 69 PA10, 70 PA11, 71 PA12, 72 PA13, 73 VCAP2, 74 VSS, 75 VDD, 76 PA14, 77 PA15, 78 PC10, 79 PC11, 80 PC12, 81 PD0, 82 PD1, 83 PD2, 84 PD3, 85 PD4, 86 PD5, 87 PD6, 88 PD7, 89 PB3, 90 PB4, 91 PB5, 92 PB6, 93 PB7, 94 BOOT0, 95 PB8, 96 PB9, 97 PE0, 98 PE1, 99 VSS, 100 VDD

## STM32F411VEHx
designator *  value STM32F411VEHx  Reference: U
STMicroelectronics Arm Cortex-M4 MCU, 512KB flash, 128KB RAM, 100 MHz, 1.7-3.6V, 81 GPIO, UFBGA100; ki_keywords: Arm Cortex-M4 STM32F4 STM32F411; ki_fp_filters: UFBGA*7x7mm*Layout12x12*P0.5mm*; Footprint: Package_BGA:UFBGA-100_7x7mm_Layout12x12_P0.5mm; Datasheet: https://www.st.com/resource/en/datasheet/stm32f411ve.pdf; Description_: STMicroelectronics Arm Cortex-M4 MCU, 512KB flash, 128KB RAM, 100 MHz, 1.7-3.6V, 81 GPIO, UFBGA100
pins: A1 PE3, A2 PE1, A3 PB8, A4 BOOT0, A5 PD7, A6 PD5, A7 PB4, A8 PB3, A9 PA15, A10 PA14, A11 PA13, A12 PA12, B1 PE4, B2 PE2, B3 PB9, B4 PB7, B5 PB6, B6 PD6, B7 PD4, B8 PD3, B9 PD1, B10 PC12, B11 PC10, B12 PA11, C1 PC13, C2 PE5, C3 PE0, C4 VDD, C5 PB5, C8 PD2, C9 PD0, C10 PC11, C11 VCAP2, C12 PA10, D1 PC14, D2 PE6, D3 VSS, D10 PA9, D11 PA8, D12 PC9, E1 PC15, E2 VBAT, E3 BYPASS_REG, E10 PC8, E11 PC7, E12 PC6, F1 PH0, F2 VSS, F11 VSS, F12 VSS, G1 PH1, G2 VDD, G11 VDD, G12 VDD, H1 PC0, H2 NRST, H3 PDR_ON, H10 PD15, H11 PD14, H12 PD13, J1 VSSA, J2 PC1, J3 PC2, J10 PD12, J11 PD11, J12 PD10, K1 VREF-, K2 PC3, K3 PA2, K4 PA5, K5 PC4, K8 PD9, K9 PB11, K10 PB15, K11 PB14, K12 PB13, L1 VREF+, L2 PA0, L3 PA3, L4 PA6, L5 PC5, L6 PB2, L7 PE8, L8 PE10, L9 PE12, L10 PB10, L11 VCAP1, L12 PB12, M1 VDDA, M2 PA1, M3 PA4, M4 PA7, M5 PB0, M6 PB1, M7 PE7, M8 PE9, M9 PE11, M10 PE13, M11 PE14, M12 PE15

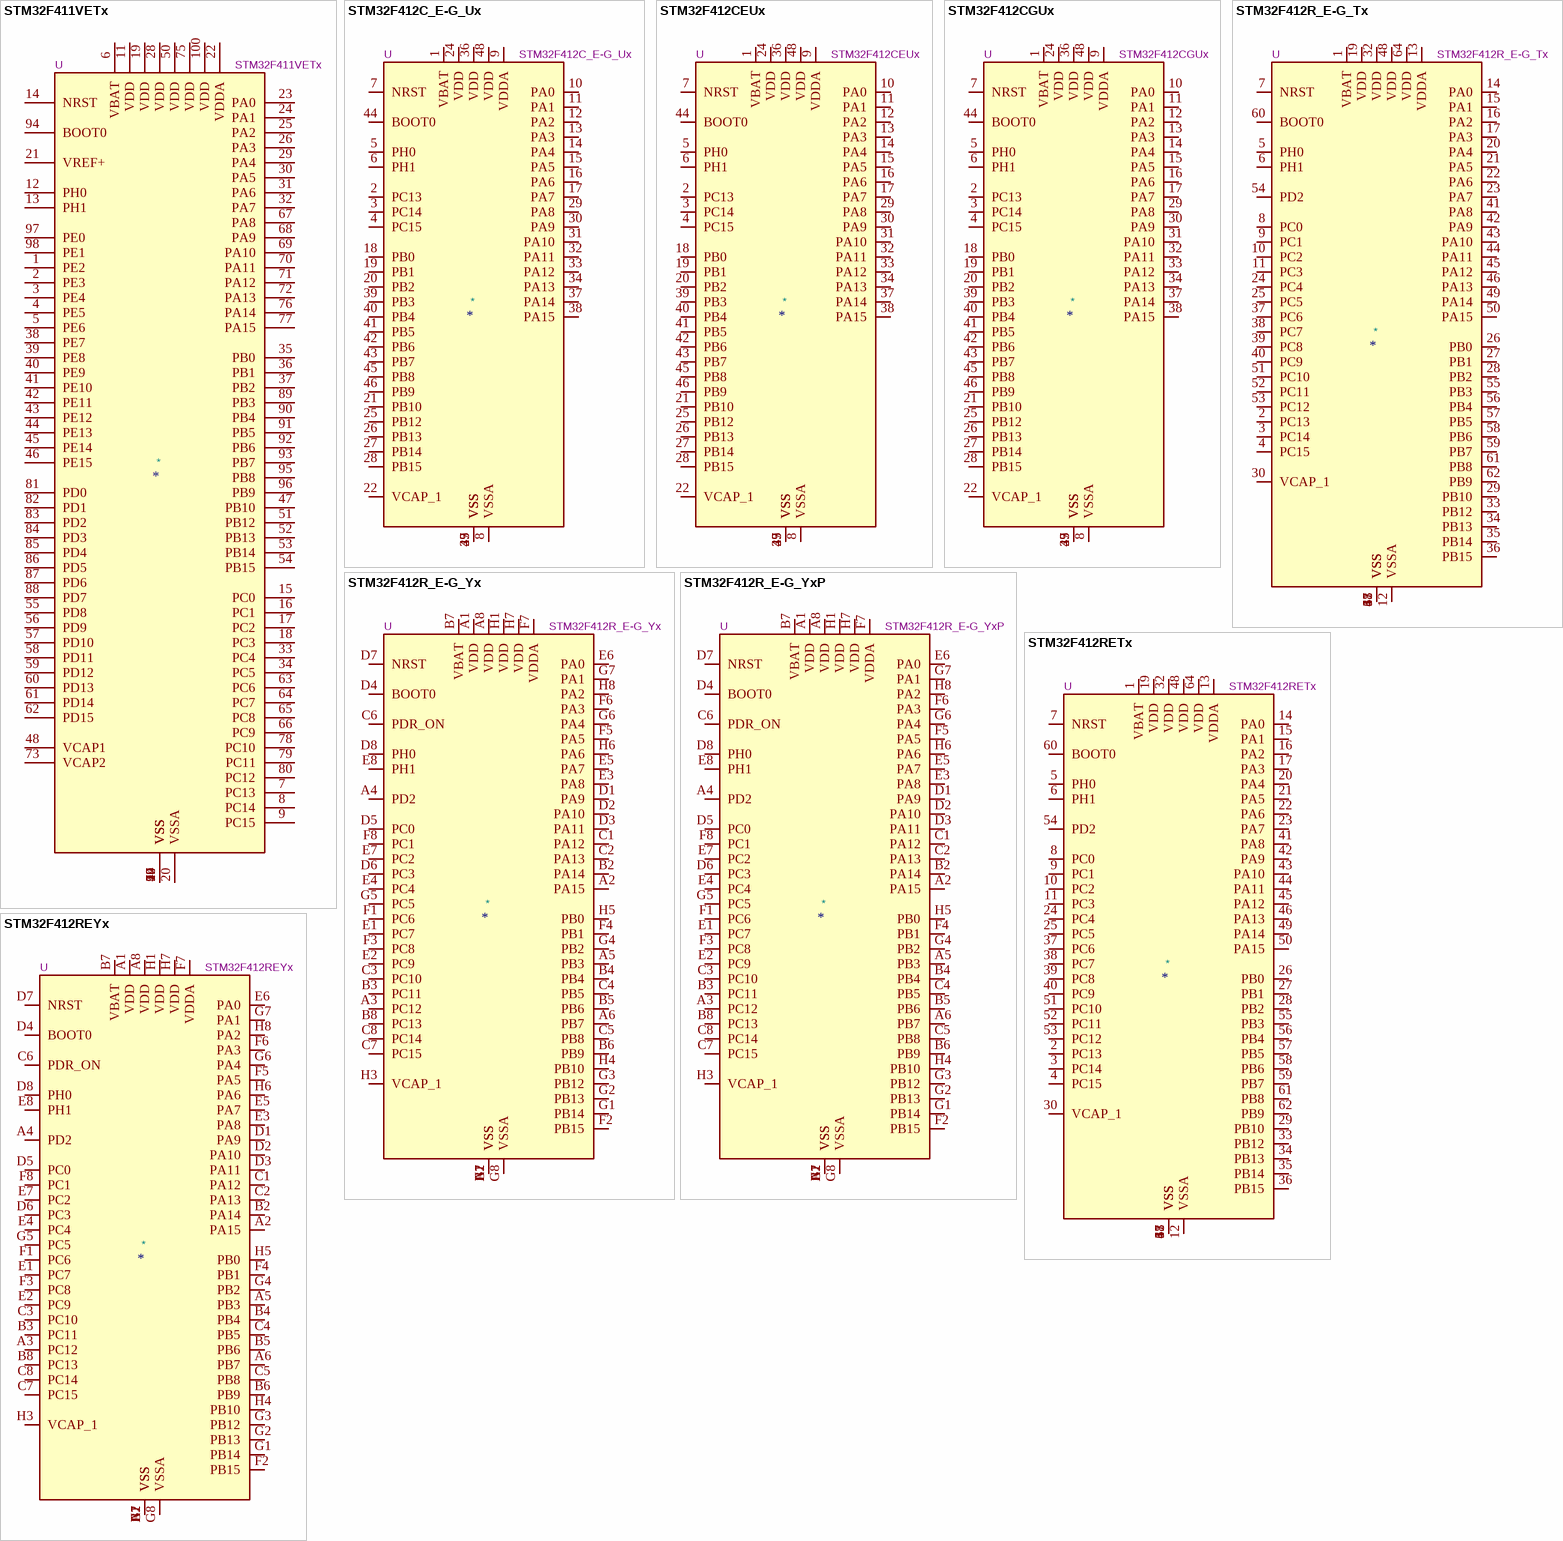
[diagram p14: symbols STM32F411VETx to STM32F412REYx]

## STM32F411VETx
designator *  value STM32F411VETx  Reference: U
STMicroelectronics Arm Cortex-M4 MCU, 512KB flash, 128KB RAM, 100 MHz, 1.7-3.6V, 81 GPIO, LQFP100; ki_keywords: Arm Cortex-M4 STM32F4 STM32F411; ki_fp_filters: LQFP*14x14mm*P0.5mm*; Footprint: Package_QFP:LQFP-100_14x14mm_P0.5mm; Datasheet: https://www.st.com/resource/en/datasheet/stm32f411ve.pdf; Description_: STMicroelectronics Arm Cortex-M4 MCU, 512KB flash, 128KB RAM, 100 MHz, 1.7-3.6V, 81 GPIO, LQFP100
pins: 1 PE2, 2 PE3, 3 PE4, 4 PE5, 5 PE6, 6 VBAT, 7 PC13, 8 PC14, 9 PC15, 10 VSS, 11 VDD, 12 PH0, 13 PH1, 14 NRST, 15 PC0, 16 PC1, 17 PC2, 18 PC3, 19 VDD, 20 VSSA, 21 VREF+, 22 VDDA, 23 PA0, 24 PA1, 25 PA2, 26 PA3, 27 VSS, 28 VDD, 29 PA4, 30 PA5, 31 PA6, 32 PA7, 33 PC4, 34 PC5, 35 PB0, 36 PB1, 37 PB2, 38 PE7, 39 PE8, 40 PE9, 41 PE10, 42 PE11, 43 PE12, 44 PE13, 45 PE14, 46 PE15, 47 PB10, 48 VCAP1, 49 VSS, 50 VDD, 51 PB12, 52 PB13, 53 PB14, 54 PB15, 55 PD8, 56 PD9, 57 PD10, 58 PD11, 59 PD12, 60 PD13, 61 PD14, 62 PD15, 63 PC6, 64 PC7, 65 PC8, 66 PC9, 67 PA8, 68 PA9, 69 PA10, 70 PA11, 71 PA12, 72 PA13, 73 VCAP2, 74 VSS, 75 VDD, 76 PA14, 77 PA15, 78 PC10, 79 PC11, 80 PC12, 81 PD0, 82 PD1, 83 PD2, 84 PD3, 85 PD4, 86 PD5, 87 PD6, 88 PD7, 89 PB3, 90 PB4, 91 PB5, 92 PB6, 93 PB7, 94 BOOT0, 95 PB8, 96 PB9, 97 PE0, 98 PE1, 99 VSS, 100 VDD

## STM32F412C_E-G_Ux
designator *  value STM32F412C_E-G_Ux  Reference: U
STMicroelectronics Arm Cortex-M4 MCU, 512-1024KB flash, 256KB RAM, 100 MHz, 1.7-3.6V, 36 GPIO, UFQFPN48; ki_keywords: Arm Cortex-M4 STM32F4 STM32F412; ki_fp_filters: QFN*1EP*7x7mm*P0.5mm*; Footprint: Package_DFN_QFN:QFN-48-1EP_7x7mm_P0.5mm_EP5.6x5.6mm; Datasheet: https://www.st.com/resource/en/datasheet/stm32f412ce.pdf; Description_: STMicroelectronics Arm Cortex-M4 MCU, 512-1024KB flash, 256KB RAM, 100 MHz, 1.7-3.6V, 36 GPIO, UFQFPN48
pins: 1 VBAT, 2 PC13, 3 PC14, 4 PC15, 5 PH0, 6 PH1, 7 NRST, 8 VSSA, 9 VDDA, 10 PA0, 11 PA1, 12 PA2, 13 PA3, 14 PA4, 15 PA5, 16 PA6, 17 PA7, 18 PB0, 19 PB1, 20 PB2, 21 PB10, 22 VCAP_1, 23 VSS, 24 VDD, 25 PB12, 26 PB13, 27 PB14, 28 PB15, 29 PA8, 30 PA9, 31 PA10, 32 PA11, 33 PA12, 34 PA13, 35 VSS, 36 VDD, 37 PA14, 38 PA15, 39 PB3, 40 PB4, 41 PB5, 42 PB6, 43 PB7, 44 BOOT0, 45 PB8, 46 PB9, 47 VSS, 48 VDD, 49 VSS

## STM32F412CEUx
designator *  value STM32F412CEUx  Reference: U
STMicroelectronics Arm Cortex-M4 MCU, 512KB flash, 256KB RAM, 100 MHz, 1.7-3.6V, 36 GPIO, UFQFPN48; ki_keywords: Arm Cortex-M4 STM32F4 STM32F412; ki_fp_filters: QFN*1EP*7x7mm*P0.5mm*; Footprint: Package_DFN_QFN:QFN-48-1EP_7x7mm_P0.5mm_EP5.6x5.6mm; Datasheet: https://www.st.com/resource/en/datasheet/stm32f412ce.pdf; Description_: STMicroelectronics Arm Cortex-M4 MCU, 512KB flash, 256KB RAM, 100 MHz, 1.7-3.6V, 36 GPIO, UFQFPN48
pins: 1 VBAT, 2 PC13, 3 PC14, 4 PC15, 5 PH0, 6 PH1, 7 NRST, 8 VSSA, 9 VDDA, 10 PA0, 11 PA1, 12 PA2, 13 PA3, 14 PA4, 15 PA5, 16 PA6, 17 PA7, 18 PB0, 19 PB1, 20 PB2, 21 PB10, 22 VCAP_1, 23 VSS, 24 VDD, 25 PB12, 26 PB13, 27 PB14, 28 PB15, 29 PA8, 30 PA9, 31 PA10, 32 PA11, 33 PA12, 34 PA13, 35 VSS, 36 VDD, 37 PA14, 38 PA15, 39 PB3, 40 PB4, 41 PB5, 42 PB6, 43 PB7, 44 BOOT0, 45 PB8, 46 PB9, 47 VSS, 48 VDD, 49 VSS

## STM32F412CGUx
designator *  value STM32F412CGUx  Reference: U
STMicroelectronics Arm Cortex-M4 MCU, 1024KB flash, 256KB RAM, 100 MHz, 1.7-3.6V, 36 GPIO, UFQFPN48; ki_keywords: Arm Cortex-M4 STM32F4 STM32F412; ki_fp_filters: QFN*1EP*7x7mm*P0.5mm*; Footprint: Package_DFN_QFN:QFN-48-1EP_7x7mm_P0.5mm_EP5.6x5.6mm; Datasheet: https://www.st.com/resource/en/datasheet/stm32f412cg.pdf; Description_: STMicroelectronics Arm Cortex-M4 MCU, 1024KB flash, 256KB RAM, 100 MHz, 1.7-3.6V, 36 GPIO, UFQFPN48
pins: 1 VBAT, 2 PC13, 3 PC14, 4 PC15, 5 PH0, 6 PH1, 7 NRST, 8 VSSA, 9 VDDA, 10 PA0, 11 PA1, 12 PA2, 13 PA3, 14 PA4, 15 PA5, 16 PA6, 17 PA7, 18 PB0, 19 PB1, 20 PB2, 21 PB10, 22 VCAP_1, 23 VSS, 24 VDD, 25 PB12, 26 PB13, 27 PB14, 28 PB15, 29 PA8, 30 PA9, 31 PA10, 32 PA11, 33 PA12, 34 PA13, 35 VSS, 36 VDD, 37 PA14, 38 PA15, 39 PB3, 40 PB4, 41 PB5, 42 PB6, 43 PB7, 44 BOOT0, 45 PB8, 46 PB9, 47 VSS, 48 VDD, 49 VSS